# Altium integrated library Actel ProASIC PLUS.IntLib: 230 symbols (part 11 of 33)
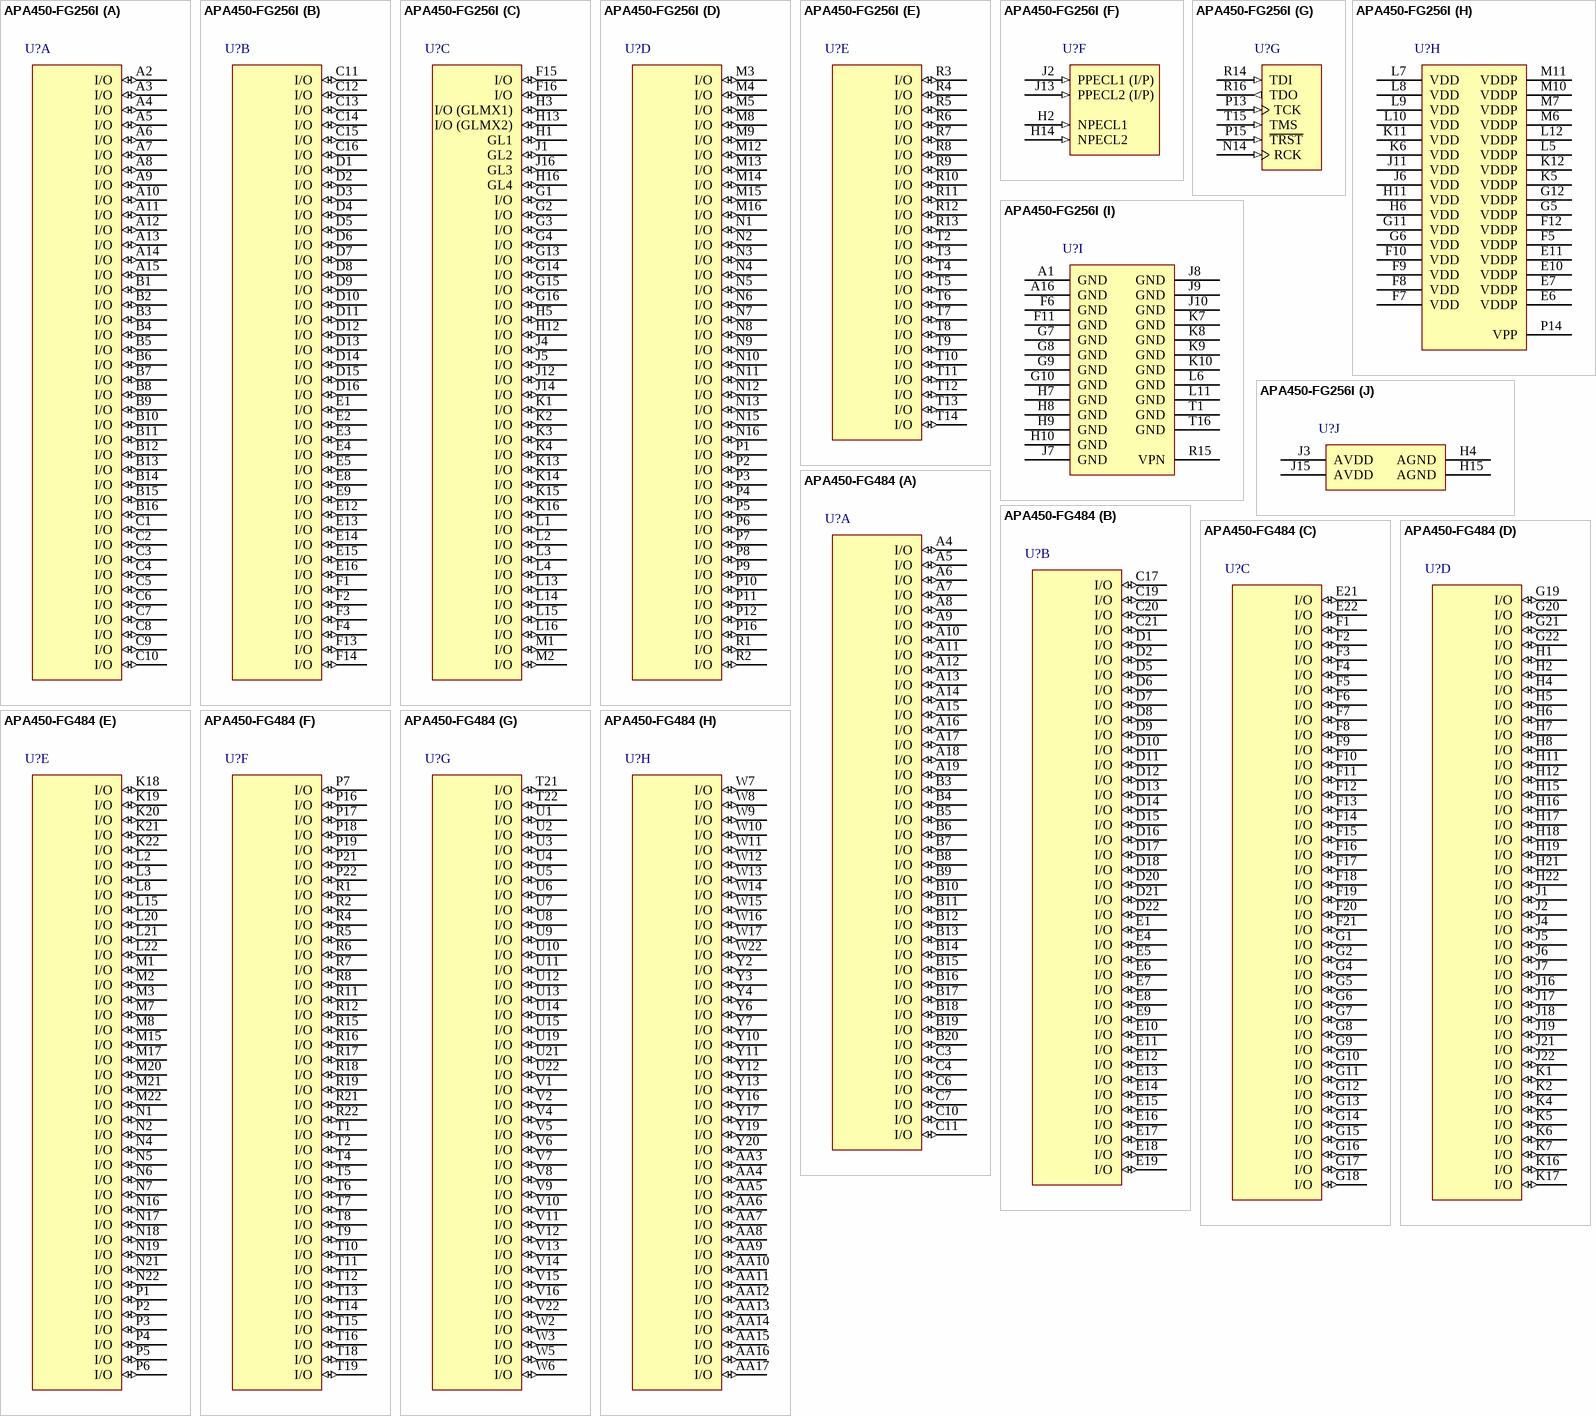
[diagram p173: symbols APA450-FG256I to APA450-FG484]

## APA450-FG256I
designator U?
ProASICPlus APA450 Flash FPGA, 186 User IOs, 256-Pin FBGA, Speed Grade Standard, Industrial Grade; Published: 21-May-2003; LatestRevisionDate: 13-Apr-2006; LatestRevisionNote: IPC-7351 Footprint Added.; DatasheetVersion: ver5.3, May-2006; PackageVersion: v9.4, Aug-2006; PackageReference: FG256; Publisher: Altium Limited; PackageDescription: 256-Ball Fine Pitch Plastic Ball Grid Array (FG256); Code_JEDEC: MS-034-AAF-1; ComponentLink1Description: Manufacturer Link; ComponentLink1URL: http://www.actel.com/products/proasicplus/index.html; ComponentLink2Description: Datasheet; ComponentLink2URL: http://www.actel.com/documents/ProASICPlus_DS.pdf
footprint FG256 (BGA, 256-Leads, Body 17x17mm, Pitch 1mm)
3D model APA450-FG256 (256-Ball Fine Pitch Plastic Ball Grid Array (FG256))
part A pins: A2 I/O (io), A3 I/O (io), A4 I/O (io), A5 I/O (io), A6 I/O (io), A7 I/O (io), A8 I/O (io), A9 I/O (io), A10 I/O (io), A11 I/O (io), A12 I/O (io), A13 I/O (io), A14 I/O (io), A15 I/O (io), B1 I/O (io), B2 I/O (io), B3 I/O (io), B4 I/O (io), B5 I/O (io), B6 I/O (io), B7 I/O (io), B8 I/O (io), B9 I/O (io), B10 I/O (io), B11 I/O (io), B12 I/O (io), B13 I/O (io), B14 I/O (io), B15 I/O (io), B16 I/O (io), C1 I/O (io), C2 I/O (io), C3 I/O (io), C4 I/O (io), C5 I/O (io), C6 I/O (io), C7 I/O (io), C8 I/O (io), C9 I/O (io), C10 I/O (io)
part B pins: C11 I/O (io), C12 I/O (io), C13 I/O (io), C14 I/O (io), C15 I/O (io), C16 I/O (io), D1 I/O (io), D2 I/O (io), D3 I/O (io), D4 I/O (io), D5 I/O (io), D6 I/O (io), D7 I/O (io), D8 I/O (io), D9 I/O (io), D10 I/O (io), D11 I/O (io), D12 I/O (io), D13 I/O (io), D14 I/O (io), D15 I/O (io), D16 I/O (io), E1 I/O (io), E2 I/O (io), E3 I/O (io), E4 I/O (io), E5 I/O (io), E8 I/O (io), E9 I/O (io), E12 I/O (io), E13 I/O (io), E14 I/O (io), E15 I/O (io), E16 I/O (io), F1 I/O (io), F2 I/O (io), F3 I/O (io), F4 I/O (io), F13 I/O (io), F14 I/O (io)
part C pins: F15 I/O (io), F16 I/O (io), G1 I/O (io), G2 I/O (io), G3 I/O (io), G4 I/O (io), G13 I/O (io), G14 I/O (io), G15 I/O (io), G16 I/O (io), H1 GL1 (io), H3 I/O (GLMX1) (io), H5 I/O (io), H12 I/O (io), H13 I/O (GLMX2) (io), H16 GL4 (io), J1 GL2 (io), J4 I/O (io), J5 I/O (io), J12 I/O (io), J14 I/O (io), J16 GL3 (io), K1 I/O (io), K2 I/O (io), K3 I/O (io), K4 I/O (io), K13 I/O (io), K14 I/O (io), K15 I/O (io), K16 I/O (io), L1 I/O (io), L2 I/O (io), L3 I/O (io), L4 I/O (io), L13 I/O (io), L14 I/O (io), L15 I/O (io), L16 I/O (io), M1 I/O (io), M2 I/O (io)
part D pins: M3 I/O (io), M4 I/O (io), M5 I/O (io), M8 I/O (io), M9 I/O (io), M12 I/O (io), M13 I/O (io), M14 I/O (io), M15 I/O (io), M16 I/O (io), N1 I/O (io), N2 I/O (io), N3 I/O (io), N4 I/O (io), N5 I/O (io), N6 I/O (io), N7 I/O (io), N8 I/O (io), N9 I/O (io), N10 I/O (io), N11 I/O (io), N12 I/O (io), N13 I/O (io), N15 I/O (io), N16 I/O (io), P1 I/O (io), P2 I/O (io), P3 I/O (io), P4 I/O (io), P5 I/O (io), P6 I/O (io), P7 I/O (io), P8 I/O (io), P9 I/O (io), P10 I/O (io), P11 I/O (io), P12 I/O (io), P16 I/O (io), R1 I/O (io), R2 I/O (io)
part E pins: R3 I/O (io), R4 I/O (io), R5 I/O (io), R6 I/O (io), R7 I/O (io), R8 I/O (io), R9 I/O (io), R10 I/O (io), R11 I/O (io), R12 I/O (io), R13 I/O (io), T2 I/O (io), T3 I/O (io), T4 I/O (io), T5 I/O (io), T6 I/O (io), T7 I/O (io), T8 I/O (io), T9 I/O (io), T10 I/O (io), T11 I/O (io), T12 I/O (io), T13 I/O (io), T14 I/O (io)
part F pins: H2 NPECL1 (in), H14 NPECL2 (in), J2 PPECL1 (I/P) (in), J13 PPECL2 (I/P) (in)
part G pins: N14 RCK (in), P13 TCK (in), P15 ~{TRST} (in), R14 TDI (in), R16 TDO (out), T15 TMS (in)
part H pins: E6 VDDP (power), E7 VDDP (power), E10 VDDP (power), E11 VDDP (power), F5 VDDP (power), F7 VDD (power), F8 VDD (power), F9 VDD (power), F10 VDD (power), F12 VDDP (power), G5 VDDP (power), G6 VDD (power), G11 VDD (power), G12 VDDP (power), H6 VDD (power), H11 VDD (power), J6 VDD (power), J11 VDD (power), K5 VDDP (power), K6 VDD (power), K11 VDD (power), K12 VDDP (power), L5 VDDP (power), L7 VDD (power), L8 VDD (power), L9 VDD (power), L10 VDD (power), L12 VDDP (power), M6 VDDP (power), M7 VDDP (power), M10 VDDP (power), M11 VDDP (power), P14 VPP (power)
part I pins: A1 GND (power), A16 GND (power), F6 GND (power), F11 GND (power), G7 GND (power), G8 GND (power), G9 GND (power), G10 GND (power), H7 GND (power), H8 GND (power), H9 GND (power), H10 GND (power), J7 GND (power), J8 GND (power), J9 GND (power), J10 GND (power), K7 GND (power), K8 GND (power), K9 GND (power), K10 GND (power), L6 GND (power), L11 GND (power), R15 VPN (power), T1 GND (power), T16 GND (power)
part J pins: H4 AGND (power), H15 AGND (power), J3 AVDD (power), J15 AVDD (power)

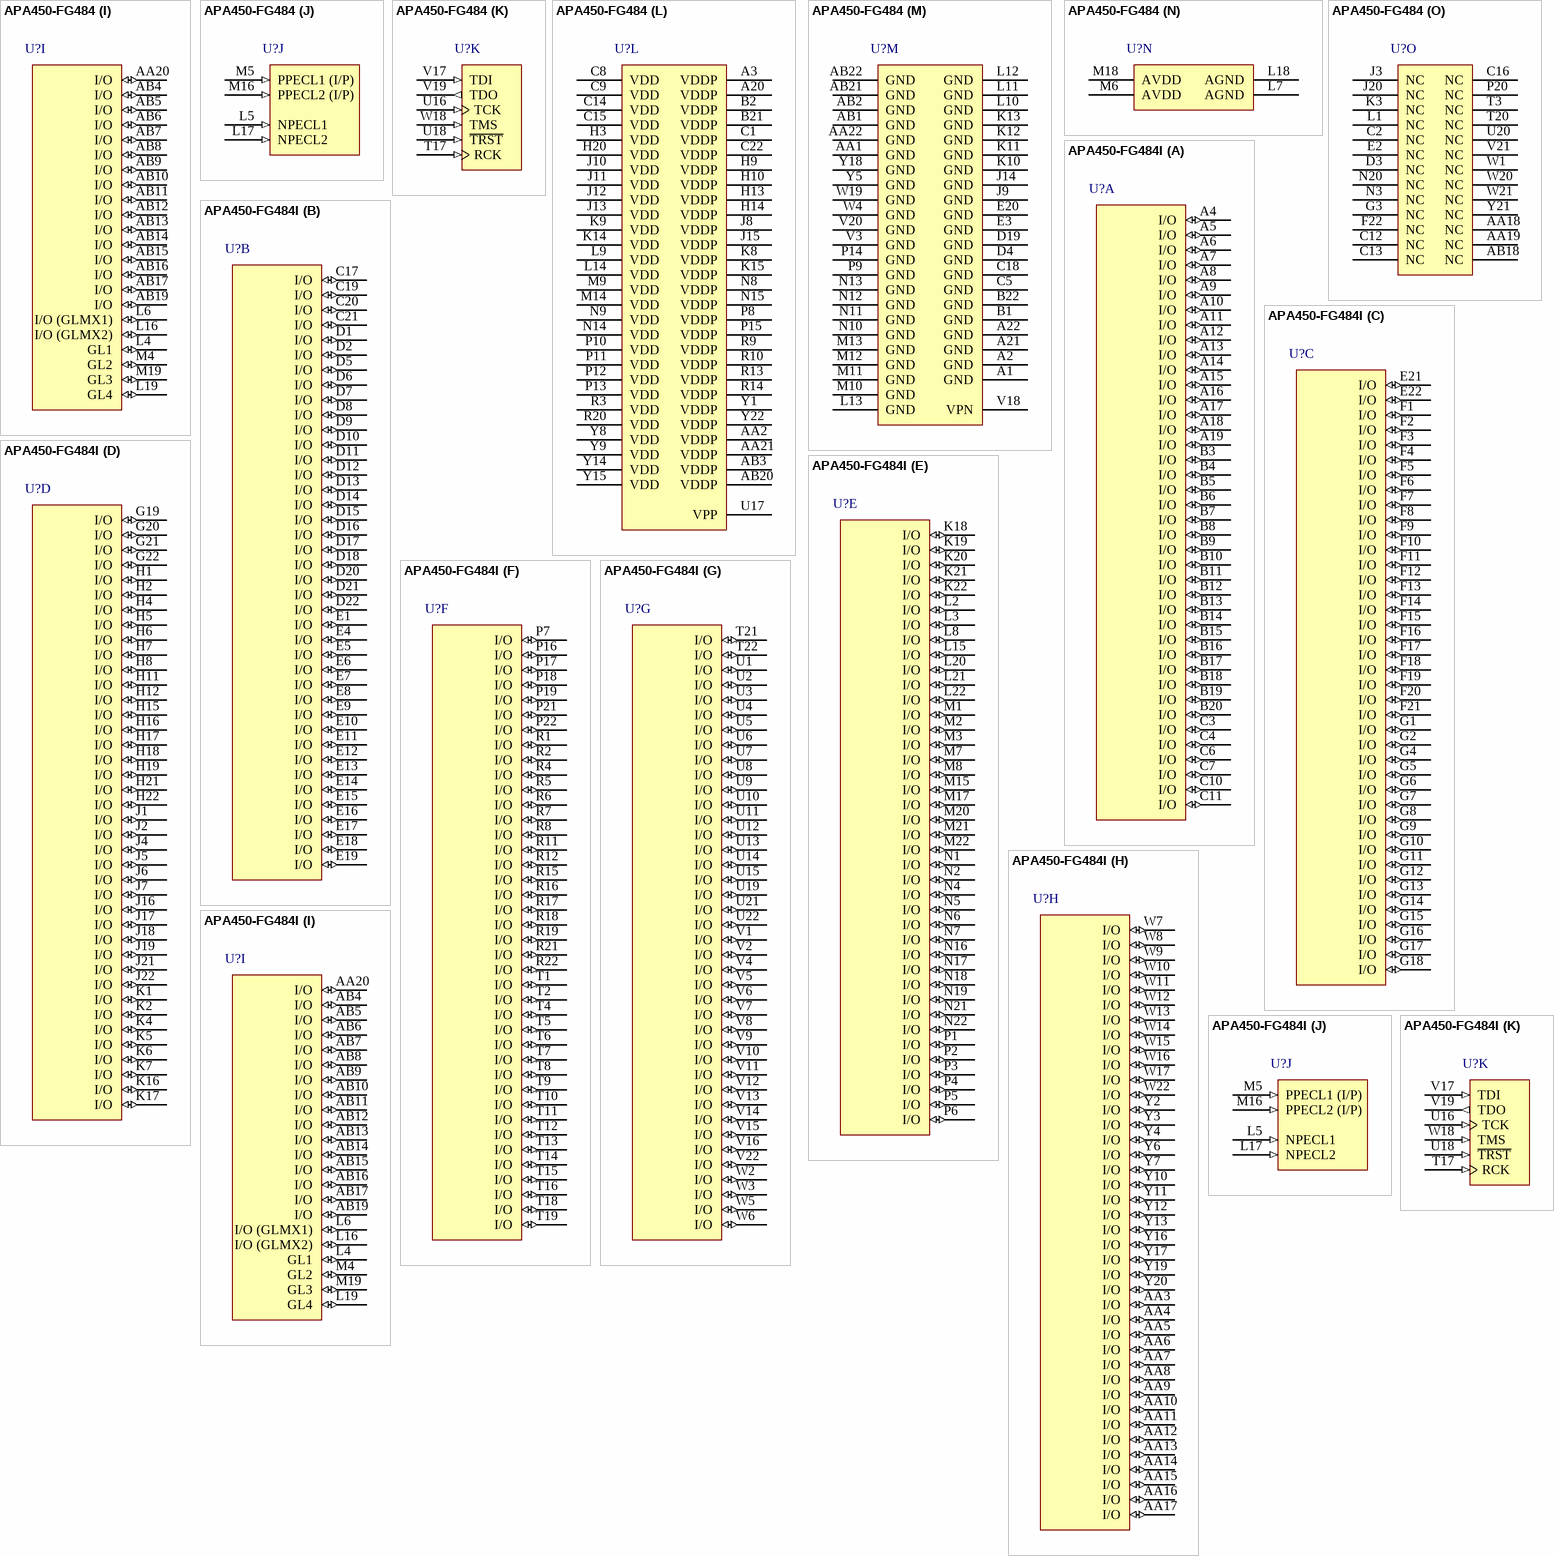
[diagram p56: symbols APA450-FG484 to APA450-FG484I]

## APA450-FG484
designator U?
ProASICPlus APA450 Flash FPGA, 344 User IOs, 484-Pin FBGA, Speed Grade Standard, Commercial Grade; Published: 21-May-2003; LatestRevisionDate: 13-Apr-2006; LatestRevisionNote: IPC-7351 Footprint Added.; DatasheetVersion: ver5.3, May-2006; PackageVersion: v9.4, Aug-2006; PackageReference: FG484; Publisher: Altium Limited; PackageDescription: 484-Ball Fine Pitch Plastic Ball Grid Array (FG484) - Fully Populated; Code_JEDEC: MS-034-AAJ-1; Code_IPC: BGA100P22X22-484; ComponentLink1Description: Manufacturer Link; ComponentLink1URL: http://www.actel.com/products/proasicplus/index.html; ComponentLink2Description: Datasheet; ComponentLink2URL: http://www.actel.com/documents/ProASICPlus_DS.pdf
footprint FG484 (BGA, 484-Leads, Body 23x23mm, Pitch 1mm)
3D model APA450-FG484 (484-Ball Fine Pitch Plastic Ball Grid Array (FG484) - Fully Populated)
part A pins: A4 I/O (io), A5 I/O (io), A6 I/O (io), A7 I/O (io), A8 I/O (io), A9 I/O (io), A10 I/O (io), A11 I/O (io), A12 I/O (io), A13 I/O (io), A14 I/O (io), A15 I/O (io), A16 I/O (io), A17 I/O (io), A18 I/O (io), A19 I/O (io), B3 I/O (io), B4 I/O (io), B5 I/O (io), B6 I/O (io), B7 I/O (io), B8 I/O (io), B9 I/O (io), B10 I/O (io), B11 I/O (io), B12 I/O (io), B13 I/O (io), B14 I/O (io), B15 I/O (io), B16 I/O (io), B17 I/O (io), B18 I/O (io), B19 I/O (io), B20 I/O (io), C3 I/O (io), C4 I/O (io), C6 I/O (io), C7 I/O (io), C10 I/O (io), C11 I/O (io)
part B pins: C17 I/O (io), C19 I/O (io), C20 I/O (io), C21 I/O (io), D1 I/O (io), D2 I/O (io), D5 I/O (io), D6 I/O (io), D7 I/O (io), D8 I/O (io), D9 I/O (io), D10 I/O (io), D11 I/O (io), D12 I/O (io), D13 I/O (io), D14 I/O (io), D15 I/O (io), D16 I/O (io), D17 I/O (io), D18 I/O (io), D20 I/O (io), D21 I/O (io), D22 I/O (io), E1 I/O (io), E4 I/O (io), E5 I/O (io), E6 I/O (io), E7 I/O (io), E8 I/O (io), E9 I/O (io), E10 I/O (io), E11 I/O (io), E12 I/O (io), E13 I/O (io), E14 I/O (io), E15 I/O (io), E16 I/O (io), E17 I/O (io), E18 I/O (io), E19 I/O (io)
part C pins: E21 I/O (io), E22 I/O (io), F1 I/O (io), F2 I/O (io), F3 I/O (io), F4 I/O (io), F5 I/O (io), F6 I/O (io), F7 I/O (io), F8 I/O (io), F9 I/O (io), F10 I/O (io), F11 I/O (io), F12 I/O (io), F13 I/O (io), F14 I/O (io), F15 I/O (io), F16 I/O (io), F17 I/O (io), F18 I/O (io), F19 I/O (io), F20 I/O (io), F21 I/O (io), G1 I/O (io), G2 I/O (io), G4 I/O (io), G5 I/O (io), G6 I/O (io), G7 I/O (io), G8 I/O (io), G9 I/O (io), G10 I/O (io), G11 I/O (io), G12 I/O (io), G13 I/O (io), G14 I/O (io), G15 I/O (io), G16 I/O (io), G17 I/O (io), G18 I/O (io)
part D pins: G19 I/O (io), G20 I/O (io), G21 I/O (io), G22 I/O (io), H1 I/O (io), H2 I/O (io), H4 I/O (io), H5 I/O (io), H6 I/O (io), H7 I/O (io), H8 I/O (io), H11 I/O (io), H12 I/O (io), H15 I/O (io), H16 I/O (io), H17 I/O (io), H18 I/O (io), H19 I/O (io), H21 I/O (io), H22 I/O (io), J1 I/O (io), J2 I/O (io), J4 I/O (io), J5 I/O (io), J6 I/O (io), J7 I/O (io), J16 I/O (io), J17 I/O (io), J18 I/O (io), J19 I/O (io), J21 I/O (io), J22 I/O (io), K1 I/O (io), K2 I/O (io), K4 I/O (io), K5 I/O (io), K6 I/O (io), K7 I/O (io), K16 I/O (io), K17 I/O (io)
part E pins: K18 I/O (io), K19 I/O (io), K20 I/O (io), K21 I/O (io), K22 I/O (io), L2 I/O (io), L3 I/O (io), L8 I/O (io), L15 I/O (io), L20 I/O (io), L21 I/O (io), L22 I/O (io), M1 I/O (io), M2 I/O (io), M3 I/O (io), M7 I/O (io), M8 I/O (io), M15 I/O (io), M17 I/O (io), M20 I/O (io), M21 I/O (io), M22 I/O (io), N1 I/O (io), N2 I/O (io), N4 I/O (io), N5 I/O (io), N6 I/O (io), N7 I/O (io), N16 I/O (io), N17 I/O (io), N18 I/O (io), N19 I/O (io), N21 I/O (io), N22 I/O (io), P1 I/O (io), P2 I/O (io), P3 I/O (io), P4 I/O (io), P5 I/O (io), P6 I/O (io)
part F pins: P7 I/O (io), P16 I/O (io), P17 I/O (io), P18 I/O (io), P19 I/O (io), P21 I/O (io), P22 I/O (io), R1 I/O (io), R2 I/O (io), R4 I/O (io), R5 I/O (io), R6 I/O (io), R7 I/O (io), R8 I/O (io), R11 I/O (io), R12 I/O (io), R15 I/O (io), R16 I/O (io), R17 I/O (io), R18 I/O (io), R19 I/O (io), R21 I/O (io), R22 I/O (io), T1 I/O (io), T2 I/O (io), T4 I/O (io), T5 I/O (io), T6 I/O (io), T7 I/O (io), T8 I/O (io), T9 I/O (io), T10 I/O (io), T11 I/O (io), T12 I/O (io), T13 I/O (io), T14 I/O (io), T15 I/O (io), T16 I/O (io), T18 I/O (io), T19 I/O (io)
part G pins: T21 I/O (io), T22 I/O (io), U1 I/O (io), U2 I/O (io), U3 I/O (io), U4 I/O (io), U5 I/O (io), U6 I/O (io), U7 I/O (io), U8 I/O (io), U9 I/O (io), U10 I/O (io), U11 I/O (io), U12 I/O (io), U13 I/O (io), U14 I/O (io), U15 I/O (io), U19 I/O (io), U21 I/O (io), U22 I/O (io), V1 I/O (io), V2 I/O (io), V4 I/O (io), V5 I/O (io), V6 I/O (io), V7 I/O (io), V8 I/O (io), V9 I/O (io), V10 I/O (io), V11 I/O (io), V12 I/O (io), V13 I/O (io), V14 I/O (io), V15 I/O (io), V16 I/O (io), V22 I/O (io), W2 I/O (io), W3 I/O (io), W5 I/O (io), W6 I/O (io)
part H pins: AA3 I/O (io), AA4 I/O (io), AA5 I/O (io), AA6 I/O (io), AA7 I/O (io), AA8 I/O (io), AA9 I/O (io), AA10 I/O (io), AA11 I/O (io), AA12 I/O (io), AA13 I/O (io), AA14 I/O (io), AA15 I/O (io), AA16 I/O (io), AA17 I/O (io), W7 I/O (io), W8 I/O (io), W9 I/O (io), W10 I/O (io), W11 I/O (io), W12 I/O (io), W13 I/O (io), W14 I/O (io), W15 I/O (io), W16 I/O (io), W17 I/O (io), W22 I/O (io), Y2 I/O (io), Y3 I/O (io), Y4 I/O (io), Y6 I/O (io), Y7 I/O (io), Y10 I/O (io), Y11 I/O (io), Y12 I/O (io), Y13 I/O (io), Y16 I/O (io), Y17 I/O (io), Y19 I/O (io), Y20 I/O (io)
part I pins: AA20 I/O (io), AB4 I/O (io), AB5 I/O (io), AB6 I/O (io), AB7 I/O (io), AB8 I/O (io), AB9 I/O (io), AB10 I/O (io), AB11 I/O (io), AB12 I/O (io), AB13 I/O (io), AB14 I/O (io), AB15 I/O (io), AB16 I/O (io), AB17 I/O (io), AB19 I/O (io), L4 GL1 (io), L6 I/O (GLMX1) (io), L16 I/O (GLMX2) (io), L19 GL4 (io), M4 GL2 (io), M19 GL3 (io)
part J pins: L5 NPECL1 (in), L17 NPECL2 (in), M5 PPECL1 (I/P) (in), M16 PPECL2 (I/P) (in)
part K pins: T17 RCK (in), U16 TCK (in), U18 ~{TRST} (in), V17 TDI (in), V19 TDO (out), W18 TMS (in)
part L pins: A3 VDDP (power), A20 VDDP (power), AA2 VDDP (power), AA21 VDDP (power), AB3 VDDP (power), AB20 VDDP (power), B2 VDDP (power), B21 VDDP (power), C1 VDDP (power), C8 VDD (power), C9 VDD (power), C14 VDD (power), C15 VDD (power), C22 VDDP (power), H3 VDD (power), H9 VDDP (power), H10 VDDP (power), H13 VDDP (power), H14 VDDP (power), H20 VDD (power), J8 VDDP (power), J10 VDD (power), J11 VDD (power), J12 VDD (power), J13 VDD (power), J15 VDDP (power), K8 VDDP (power), K9 VDD (power), K14 VDD (power), K15 VDDP (power), L9 VDD (power), L14 VDD (power), M9 VDD (power), M14 VDD (power), N8 VDDP (power), N9 VDD (power), N14 VDD (power), N15 VDDP (power), P8 VDDP (power), P10 VDD (power), P11 VDD (power), P12 VDD (power), P13 VDD (power), P15 VDDP (power), R3 VDD (power), R9 VDDP (power), R10 VDDP (power), R13 VDDP (power), R14 VDDP (power), R20 VDD (power), U17 VPP (power), Y1 VDDP (power), Y8 VDD (power), Y9 VDD (power), Y14 VDD (power), Y15 VDD (power), Y22 VDDP (power)
part M pins: A1 GND (power), A2 GND (power), A21 GND (power), A22 GND (power), AA1 GND (power), AA22 GND (power), AB1 GND (power), AB2 GND (power), AB21 GND (power), AB22 GND (power), B1 GND (power), B22 GND (power), C5 GND (power), C18 GND (power), D4 GND (power), D19 GND (power), E3 GND (power), E20 GND (power), J9 GND (power), J14 GND (power), K10 GND (power), K11 GND (power), K12 GND (power), K13 GND (power), L10 GND (power), L11 GND (power), L12 GND (power), L13 GND (power), M10 GND (power), M11 GND (power), M12 GND (power), M13 GND (power), N10 GND (power), N11 GND (power), N12 GND (power), N13 GND (power), P9 GND (power), P14 GND (power), V3 GND (power), V18 VPN (power), V20 GND (power), W4 GND (power), W19 GND (power), Y5 GND (power), Y18 GND (power)
part N pins: L7 AGND (power), L18 AGND (power), M6 AVDD (power), M18 AVDD (power)
part O pins: AA18 NC, AA19 NC, AB18 NC, C2 NC, C12 NC, C13 NC, C16 NC, D3 NC, E2 NC, F22 NC, G3 NC, J3 NC, J20 NC, K3 NC, L1 NC, N3 NC, N20 NC, P20 NC, T3 NC, T20 NC, U20 NC, V21 NC, W1 NC, W20 NC, W21 NC, Y21 NC

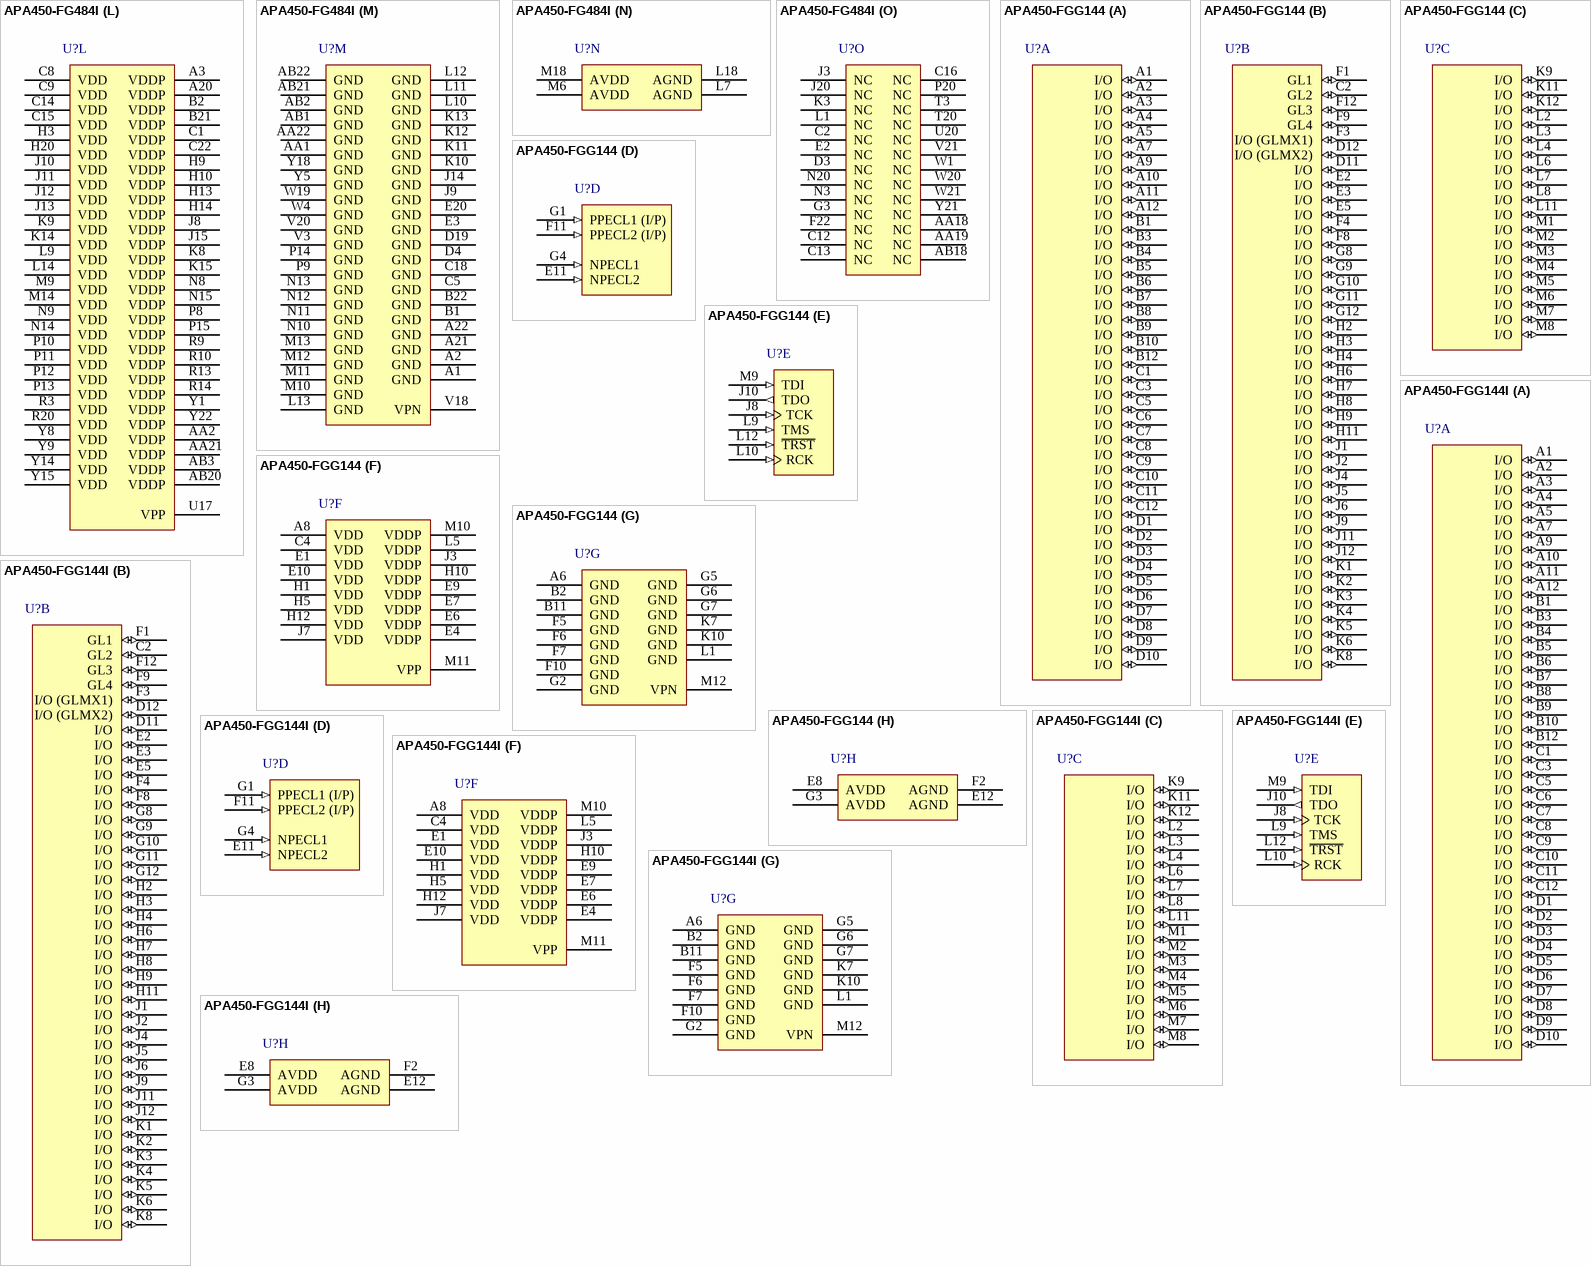
[diagram p57: symbols APA450-FG484I to APA450-FGG144I]

## APA450-FG484I
designator U?
ProASICPlus APA450 Flash FPGA, 344 User IOs, 484-Pin FBGA, Speed Grade Standard, Industrial Grade; Published: 21-May-2003; LatestRevisionDate: 13-Apr-2006; LatestRevisionNote: IPC-7351 Footprint Added.; DatasheetVersion: ver5.3, May-2006; PackageVersion: v9.4, Aug-2006; PackageReference: FG484; Publisher: Altium Limited; PackageDescription: 484-Ball Fine Pitch Plastic Ball Grid Array (FG484) - Fully Populated; Code_JEDEC: MS-034-AAJ-1; Code_IPC: BGA100P22X22-484; ComponentLink1Description: Manufacturer Link; ComponentLink1URL: http://www.actel.com/products/proasicplus/index.html; ComponentLink2Description: Datasheet; ComponentLink2URL: http://www.actel.com/documents/ProASICPlus_DS.pdf
footprint FG484 (BGA, 484-Leads, Body 23x23mm, Pitch 1mm)
3D model APA450-FG484 (484-Ball Fine Pitch Plastic Ball Grid Array (FG484) - Fully Populated)
part A pins: A4 I/O (io), A5 I/O (io), A6 I/O (io), A7 I/O (io), A8 I/O (io), A9 I/O (io), A10 I/O (io), A11 I/O (io), A12 I/O (io), A13 I/O (io), A14 I/O (io), A15 I/O (io), A16 I/O (io), A17 I/O (io), A18 I/O (io), A19 I/O (io), B3 I/O (io), B4 I/O (io), B5 I/O (io), B6 I/O (io), B7 I/O (io), B8 I/O (io), B9 I/O (io), B10 I/O (io), B11 I/O (io), B12 I/O (io), B13 I/O (io), B14 I/O (io), B15 I/O (io), B16 I/O (io), B17 I/O (io), B18 I/O (io), B19 I/O (io), B20 I/O (io), C3 I/O (io), C4 I/O (io), C6 I/O (io), C7 I/O (io), C10 I/O (io), C11 I/O (io)
part B pins: C17 I/O (io), C19 I/O (io), C20 I/O (io), C21 I/O (io), D1 I/O (io), D2 I/O (io), D5 I/O (io), D6 I/O (io), D7 I/O (io), D8 I/O (io), D9 I/O (io), D10 I/O (io), D11 I/O (io), D12 I/O (io), D13 I/O (io), D14 I/O (io), D15 I/O (io), D16 I/O (io), D17 I/O (io), D18 I/O (io), D20 I/O (io), D21 I/O (io), D22 I/O (io), E1 I/O (io), E4 I/O (io), E5 I/O (io), E6 I/O (io), E7 I/O (io), E8 I/O (io), E9 I/O (io), E10 I/O (io), E11 I/O (io), E12 I/O (io), E13 I/O (io), E14 I/O (io), E15 I/O (io), E16 I/O (io), E17 I/O (io), E18 I/O (io), E19 I/O (io)
part C pins: E21 I/O (io), E22 I/O (io), F1 I/O (io), F2 I/O (io), F3 I/O (io), F4 I/O (io), F5 I/O (io), F6 I/O (io), F7 I/O (io), F8 I/O (io), F9 I/O (io), F10 I/O (io), F11 I/O (io), F12 I/O (io), F13 I/O (io), F14 I/O (io), F15 I/O (io), F16 I/O (io), F17 I/O (io), F18 I/O (io), F19 I/O (io), F20 I/O (io), F21 I/O (io), G1 I/O (io), G2 I/O (io), G4 I/O (io), G5 I/O (io), G6 I/O (io), G7 I/O (io), G8 I/O (io), G9 I/O (io), G10 I/O (io), G11 I/O (io), G12 I/O (io), G13 I/O (io), G14 I/O (io), G15 I/O (io), G16 I/O (io), G17 I/O (io), G18 I/O (io)
part D pins: G19 I/O (io), G20 I/O (io), G21 I/O (io), G22 I/O (io), H1 I/O (io), H2 I/O (io), H4 I/O (io), H5 I/O (io), H6 I/O (io), H7 I/O (io), H8 I/O (io), H11 I/O (io), H12 I/O (io), H15 I/O (io), H16 I/O (io), H17 I/O (io), H18 I/O (io), H19 I/O (io), H21 I/O (io), H22 I/O (io), J1 I/O (io), J2 I/O (io), J4 I/O (io), J5 I/O (io), J6 I/O (io), J7 I/O (io), J16 I/O (io), J17 I/O (io), J18 I/O (io), J19 I/O (io), J21 I/O (io), J22 I/O (io), K1 I/O (io), K2 I/O (io), K4 I/O (io), K5 I/O (io), K6 I/O (io), K7 I/O (io), K16 I/O (io), K17 I/O (io)
part E pins: K18 I/O (io), K19 I/O (io), K20 I/O (io), K21 I/O (io), K22 I/O (io), L2 I/O (io), L3 I/O (io), L8 I/O (io), L15 I/O (io), L20 I/O (io), L21 I/O (io), L22 I/O (io), M1 I/O (io), M2 I/O (io), M3 I/O (io), M7 I/O (io), M8 I/O (io), M15 I/O (io), M17 I/O (io), M20 I/O (io), M21 I/O (io), M22 I/O (io), N1 I/O (io), N2 I/O (io), N4 I/O (io), N5 I/O (io), N6 I/O (io), N7 I/O (io), N16 I/O (io), N17 I/O (io), N18 I/O (io), N19 I/O (io), N21 I/O (io), N22 I/O (io), P1 I/O (io), P2 I/O (io), P3 I/O (io), P4 I/O (io), P5 I/O (io), P6 I/O (io)
part F pins: P7 I/O (io), P16 I/O (io), P17 I/O (io), P18 I/O (io), P19 I/O (io), P21 I/O (io), P22 I/O (io), R1 I/O (io), R2 I/O (io), R4 I/O (io), R5 I/O (io), R6 I/O (io), R7 I/O (io), R8 I/O (io), R11 I/O (io), R12 I/O (io), R15 I/O (io), R16 I/O (io), R17 I/O (io), R18 I/O (io), R19 I/O (io), R21 I/O (io), R22 I/O (io), T1 I/O (io), T2 I/O (io), T4 I/O (io), T5 I/O (io), T6 I/O (io), T7 I/O (io), T8 I/O (io), T9 I/O (io), T10 I/O (io), T11 I/O (io), T12 I/O (io), T13 I/O (io), T14 I/O (io), T15 I/O (io), T16 I/O (io), T18 I/O (io), T19 I/O (io)
part G pins: T21 I/O (io), T22 I/O (io), U1 I/O (io), U2 I/O (io), U3 I/O (io), U4 I/O (io), U5 I/O (io), U6 I/O (io), U7 I/O (io), U8 I/O (io), U9 I/O (io), U10 I/O (io), U11 I/O (io), U12 I/O (io), U13 I/O (io), U14 I/O (io), U15 I/O (io), U19 I/O (io), U21 I/O (io), U22 I/O (io), V1 I/O (io), V2 I/O (io), V4 I/O (io), V5 I/O (io), V6 I/O (io), V7 I/O (io), V8 I/O (io), V9 I/O (io), V10 I/O (io), V11 I/O (io), V12 I/O (io), V13 I/O (io), V14 I/O (io), V15 I/O (io), V16 I/O (io), V22 I/O (io), W2 I/O (io), W3 I/O (io), W5 I/O (io), W6 I/O (io)
part H pins: AA3 I/O (io), AA4 I/O (io), AA5 I/O (io), AA6 I/O (io), AA7 I/O (io), AA8 I/O (io), AA9 I/O (io), AA10 I/O (io), AA11 I/O (io), AA12 I/O (io), AA13 I/O (io), AA14 I/O (io), AA15 I/O (io), AA16 I/O (io), AA17 I/O (io), W7 I/O (io), W8 I/O (io), W9 I/O (io), W10 I/O (io), W11 I/O (io), W12 I/O (io), W13 I/O (io), W14 I/O (io), W15 I/O (io), W16 I/O (io), W17 I/O (io), W22 I/O (io), Y2 I/O (io), Y3 I/O (io), Y4 I/O (io), Y6 I/O (io), Y7 I/O (io), Y10 I/O (io), Y11 I/O (io), Y12 I/O (io), Y13 I/O (io), Y16 I/O (io), Y17 I/O (io), Y19 I/O (io), Y20 I/O (io)
part I pins: AA20 I/O (io), AB4 I/O (io), AB5 I/O (io), AB6 I/O (io), AB7 I/O (io), AB8 I/O (io), AB9 I/O (io), AB10 I/O (io), AB11 I/O (io), AB12 I/O (io), AB13 I/O (io), AB14 I/O (io), AB15 I/O (io), AB16 I/O (io), AB17 I/O (io), AB19 I/O (io), L4 GL1 (io), L6 I/O (GLMX1) (io), L16 I/O (GLMX2) (io), L19 GL4 (io), M4 GL2 (io), M19 GL3 (io)
part J pins: L5 NPECL1 (in), L17 NPECL2 (in), M5 PPECL1 (I/P) (in), M16 PPECL2 (I/P) (in)
part K pins: T17 RCK (in), U16 TCK (in), U18 ~{TRST} (in), V17 TDI (in), V19 TDO (out), W18 TMS (in)
part L pins: A3 VDDP (power), A20 VDDP (power), AA2 VDDP (power), AA21 VDDP (power), AB3 VDDP (power), AB20 VDDP (power), B2 VDDP (power), B21 VDDP (power), C1 VDDP (power), C8 VDD (power), C9 VDD (power), C14 VDD (power), C15 VDD (power), C22 VDDP (power), H3 VDD (power), H9 VDDP (power), H10 VDDP (power), H13 VDDP (power), H14 VDDP (power), H20 VDD (power), J8 VDDP (power), J10 VDD (power), J11 VDD (power), J12 VDD (power), J13 VDD (power), J15 VDDP (power), K8 VDDP (power), K9 VDD (power), K14 VDD (power), K15 VDDP (power), L9 VDD (power), L14 VDD (power), M9 VDD (power), M14 VDD (power), N8 VDDP (power), N9 VDD (power), N14 VDD (power), N15 VDDP (power), P8 VDDP (power), P10 VDD (power), P11 VDD (power), P12 VDD (power), P13 VDD (power), P15 VDDP (power), R3 VDD (power), R9 VDDP (power), R10 VDDP (power), R13 VDDP (power), R14 VDDP (power), R20 VDD (power), U17 VPP (power), Y1 VDDP (power), Y8 VDD (power), Y9 VDD (power), Y14 VDD (power), Y15 VDD (power), Y22 VDDP (power)
part M pins: A1 GND (power), A2 GND (power), A21 GND (power), A22 GND (power), AA1 GND (power), AA22 GND (power), AB1 GND (power), AB2 GND (power), AB21 GND (power), AB22 GND (power), B1 GND (power), B22 GND (power), C5 GND (power), C18 GND (power), D4 GND (power), D19 GND (power), E3 GND (power), E20 GND (power), J9 GND (power), J14 GND (power), K10 GND (power), K11 GND (power), K12 GND (power), K13 GND (power), L10 GND (power), L11 GND (power), L12 GND (power), L13 GND (power), M10 GND (power), M11 GND (power), M12 GND (power), M13 GND (power), N10 GND (power), N11 GND (power), N12 GND (power), N13 GND (power), P9 GND (power), P14 GND (power), V3 GND (power), V18 VPN (power), V20 GND (power), W4 GND (power), W19 GND (power), Y5 GND (power), Y18 GND (power)
part N pins: L7 AGND (power), L18 AGND (power), M6 AVDD (power), M18 AVDD (power)
part O pins: AA18 NC, AA19 NC, AB18 NC, C2 NC, C12 NC, C13 NC, C16 NC, D3 NC, E2 NC, F22 NC, G3 NC, J3 NC, J20 NC, K3 NC, L1 NC, N3 NC, N20 NC, P20 NC, T3 NC, T20 NC, U20 NC, V21 NC, W1 NC, W20 NC, W21 NC, Y21 NC

## APA450-FGG144
designator U?
ProASICPlus APA450 Flash FPGA, 100 User IOs, 114-Pin FBGA, Speed Grade Standard, Commercial Grade, Pb-Free; Published: 16-Dec-2005; LatestRevisionDate: 13-Apr-2006; LatestRevisionNote: IPC-7351 Footprint Added.; DatasheetVersion: ver5.3, May-2006; PackageVersion: v9.4, Aug-2006; PackageReference: FG144; Publisher: Altium Limited; PackageDescription: 144-Ball Fine Pitch Plastic Ball Grid Array (FG144); Code_JEDEC: MS-034-AAP-1; ComponentLink1Description: Manufacturer Link; ComponentLink1URL: http://www.actel.com/products/proasicplus/index.html; ComponentLink2Description: Datasheet; ComponentLink2URL: http://www.actel.com/documents/ProASICPlus_DS.pdf
footprint FG144 (BGA, 144-Leads, Body 13x13mm, Pitch 1mm)
3D model APA450-FG144 (144-Ball Fine Pitch Plastic Ball Grid Array (FG144))
part A pins: A1 I/O (io), A2 I/O (io), A3 I/O (io), A4 I/O (io), A5 I/O (io), A7 I/O (io), A9 I/O (io), A10 I/O (io), A11 I/O (io), A12 I/O (io), B1 I/O (io), B3 I/O (io), B4 I/O (io), B5 I/O (io), B6 I/O (io), B7 I/O (io), B8 I/O (io), B9 I/O (io), B10 I/O (io), B12 I/O (io), C1 I/O (io), C3 I/O (io), C5 I/O (io), C6 I/O (io), C7 I/O (io), C8 I/O (io), C9 I/O (io), C10 I/O (io), C11 I/O (io), C12 I/O (io), D1 I/O (io), D2 I/O (io), D3 I/O (io), D4 I/O (io), D5 I/O (io), D6 I/O (io), D7 I/O (io), D8 I/O (io), D9 I/O (io), D10 I/O (io)
part B pins: C2 GL2 (io), D11 I/O (io), D12 I/O (GLMX2) (io), E2 I/O (io), E3 I/O (io), E5 I/O (io), F1 GL1 (io), F3 I/O (GLMX1) (io), F4 I/O (io), F8 I/O (io), F9 GL4 (io), F12 GL3 (io), G8 I/O (io), G9 I/O (io), G10 I/O (io), G11 I/O (io), G12 I/O (io), H2 I/O (io), H3 I/O (io), H4 I/O (io), H6 I/O (io), H7 I/O (io), H8 I/O (io), H9 I/O (io), H11 I/O (io), J1 I/O (io), J2 I/O (io), J4 I/O (io), J5 I/O (io), J6 I/O (io), J9 I/O (io), J11 I/O (io), J12 I/O (io), K1 I/O (io), K2 I/O (io), K3 I/O (io), K4 I/O (io), K5 I/O (io), K6 I/O (io), K8 I/O (io)
part C pins: K9 I/O (io), K11 I/O (io), K12 I/O (io), L2 I/O (io), L3 I/O (io), L4 I/O (io), L6 I/O (io), L7 I/O (io), L8 I/O (io), L11 I/O (io), M1 I/O (io), M2 I/O (io), M3 I/O (io), M4 I/O (io), M5 I/O (io), M6 I/O (io), M7 I/O (io), M8 I/O (io)
part D pins: E11 NPECL2 (in), F11 PPECL2 (I/P) (in), G1 PPECL1 (I/P) (in), G4 NPECL1 (in)
part E pins: J8 TCK (in), J10 TDO (out), L9 TMS (in), L10 RCK (in), L12 ~{TRST} (in), M9 TDI (in)
part F pins: A8 VDD (power), C4 VDD (power), E1 VDD (power), E4 VDDP (power), E6 VDDP (power), E7 VDDP (power), E9 VDDP (power), E10 VDD (power), H1 VDD (power), H5 VDD (power), H10 VDDP (power), H12 VDD (power), J3 VDDP (power), J7 VDD (power), L5 VDDP (power), M10 VDDP (power), M11 VPP (power)
part G pins: A6 GND (power), B2 GND (power), B11 GND (power), F5 GND (power), F6 GND (power), F7 GND (power), F10 GND (power), G2 GND (power), G5 GND (power), G6 GND (power), G7 GND (power), K7 GND (power), K10 GND (power), L1 GND (power), M12 VPN (power)
part H pins: E8 AVDD (power), E12 AGND (power), F2 AGND (power), G3 AVDD (power)

## APA450-FGG144I
designator U?
ProASICPlus APA450 Flash FPGA, 100 User IOs, 114-Pin FBGA, Speed Grade Standard, Industrial Grade, Pb-Free; Published: 16-Dec-2005; LatestRevisionDate: 13-Apr-2006; LatestRevisionNote: IPC-7351 Footprint Added.; DatasheetVersion: ver5.3, May-2006; PackageVersion: v9.4, Aug-2006; PackageReference: FG144; Publisher: Altium Limited; PackageDescription: 144-Ball Fine Pitch Plastic Ball Grid Array (FG144); Code_JEDEC: MS-034-AAP-1; ComponentLink1Description: Manufacturer Link; ComponentLink1URL: http://www.actel.com/products/proasicplus/index.html; ComponentLink2Description: Datasheet; ComponentLink2URL: http://www.actel.com/documents/ProASICPlus_DS.pdf
footprint FG144 (BGA, 144-Leads, Body 13x13mm, Pitch 1mm)
3D model APA450-FG144 (144-Ball Fine Pitch Plastic Ball Grid Array (FG144))
part A pins: A1 I/O (io), A2 I/O (io), A3 I/O (io), A4 I/O (io), A5 I/O (io), A7 I/O (io), A9 I/O (io), A10 I/O (io), A11 I/O (io), A12 I/O (io), B1 I/O (io), B3 I/O (io), B4 I/O (io), B5 I/O (io), B6 I/O (io), B7 I/O (io), B8 I/O (io), B9 I/O (io), B10 I/O (io), B12 I/O (io), C1 I/O (io), C3 I/O (io), C5 I/O (io), C6 I/O (io), C7 I/O (io), C8 I/O (io), C9 I/O (io), C10 I/O (io), C11 I/O (io), C12 I/O (io), D1 I/O (io), D2 I/O (io), D3 I/O (io), D4 I/O (io), D5 I/O (io), D6 I/O (io), D7 I/O (io), D8 I/O (io), D9 I/O (io), D10 I/O (io)
part B pins: C2 GL2 (io), D11 I/O (io), D12 I/O (GLMX2) (io), E2 I/O (io), E3 I/O (io), E5 I/O (io), F1 GL1 (io), F3 I/O (GLMX1) (io), F4 I/O (io), F8 I/O (io), F9 GL4 (io), F12 GL3 (io), G8 I/O (io), G9 I/O (io), G10 I/O (io), G11 I/O (io), G12 I/O (io), H2 I/O (io), H3 I/O (io), H4 I/O (io), H6 I/O (io), H7 I/O (io), H8 I/O (io), H9 I/O (io), H11 I/O (io), J1 I/O (io), J2 I/O (io), J4 I/O (io), J5 I/O (io), J6 I/O (io), J9 I/O (io), J11 I/O (io), J12 I/O (io), K1 I/O (io), K2 I/O (io), K3 I/O (io), K4 I/O (io), K5 I/O (io), K6 I/O (io), K8 I/O (io)
part C pins: K9 I/O (io), K11 I/O (io), K12 I/O (io), L2 I/O (io), L3 I/O (io), L4 I/O (io), L6 I/O (io), L7 I/O (io), L8 I/O (io), L11 I/O (io), M1 I/O (io), M2 I/O (io), M3 I/O (io), M4 I/O (io), M5 I/O (io), M6 I/O (io), M7 I/O (io), M8 I/O (io)
part D pins: E11 NPECL2 (in), F11 PPECL2 (I/P) (in), G1 PPECL1 (I/P) (in), G4 NPECL1 (in)
part E pins: J8 TCK (in), J10 TDO (out), L9 TMS (in), L10 RCK (in), L12 ~{TRST} (in), M9 TDI (in)
part F pins: A8 VDD (power), C4 VDD (power), E1 VDD (power), E4 VDDP (power), E6 VDDP (power), E7 VDDP (power), E9 VDDP (power), E10 VDD (power), H1 VDD (power), H5 VDD (power), H10 VDDP (power), H12 VDD (power), J3 VDDP (power), J7 VDD (power), L5 VDDP (power), M10 VDDP (power), M11 VPP (power)
part G pins: A6 GND (power), B2 GND (power), B11 GND (power), F5 GND (power), F6 GND (power), F7 GND (power), F10 GND (power), G2 GND (power), G5 GND (power), G6 GND (power), G7 GND (power), K7 GND (power), K10 GND (power), L1 GND (power), M12 VPN (power)
part H pins: E8 AVDD (power), E12 AGND (power), F2 AGND (power), G3 AVDD (power)

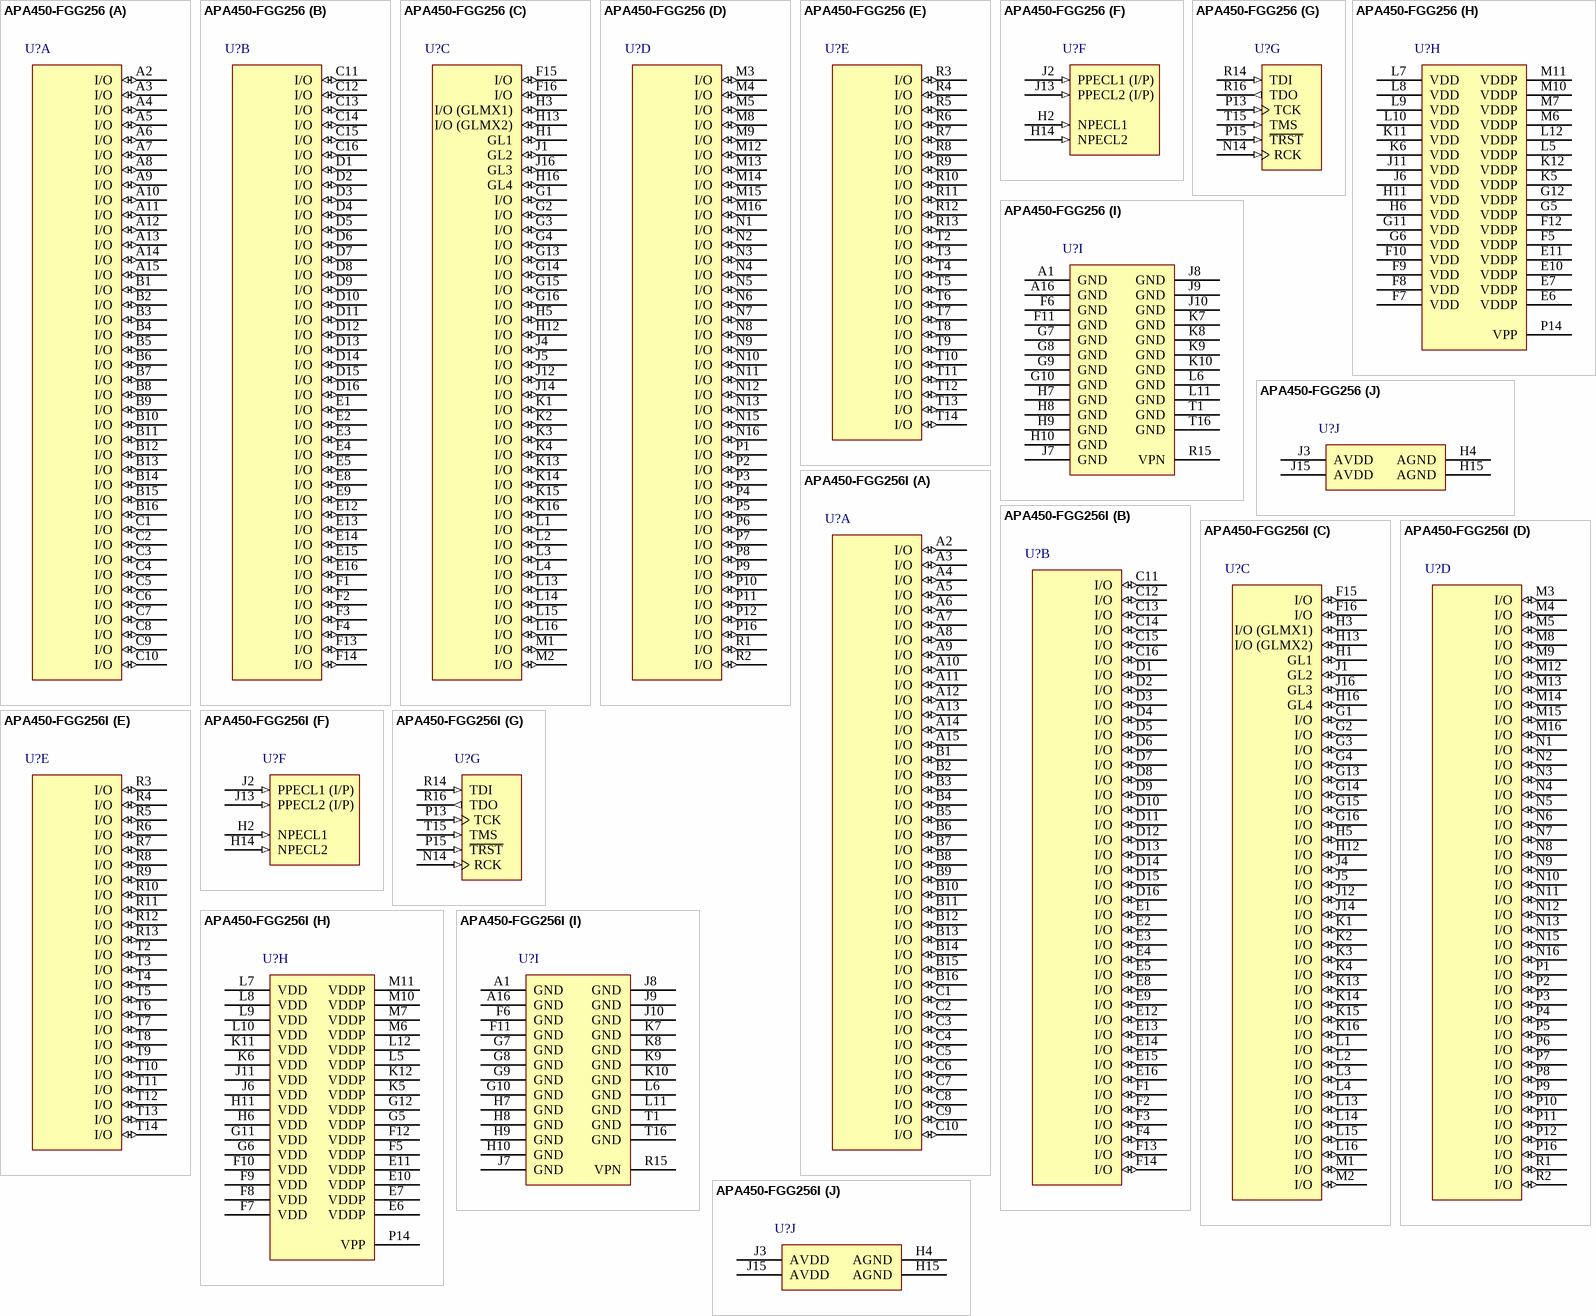
[diagram p58: symbols APA450-FGG256 to APA450-FGG256I]

## APA450-FGG256
designator U?
ProASICPlus APA450 Flash FPGA, 186 User IOs, 256-Pin FBGA, Speed Grade Standard, Commercial Grade, Pb-Free; Published: 16-Dec-2005; LatestRevisionDate: 13-Apr-2006; LatestRevisionNote: IPC-7351 Footprint Added.; DatasheetVersion: ver5.3, May-2006; PackageVersion: v9.4, Aug-2006; PackageReference: FG256; Publisher: Altium Limited; PackageDescription: 256-Ball Fine Pitch Plastic Ball Grid Array (FG256); Code_JEDEC: MS-034-AAF-1; ComponentLink1Description: Manufacturer Link; ComponentLink1URL: http://www.actel.com/products/proasicplus/index.html; ComponentLink2Description: Datasheet; ComponentLink2URL: http://www.actel.com/documents/ProASICPlus_DS.pdf
footprint FG256 (BGA, 256-Leads, Body 17x17mm, Pitch 1mm)
3D model APA450-FG256 (256-Ball Fine Pitch Plastic Ball Grid Array (FG256))
part A pins: A2 I/O (io), A3 I/O (io), A4 I/O (io), A5 I/O (io), A6 I/O (io), A7 I/O (io), A8 I/O (io), A9 I/O (io), A10 I/O (io), A11 I/O (io), A12 I/O (io), A13 I/O (io), A14 I/O (io), A15 I/O (io), B1 I/O (io), B2 I/O (io), B3 I/O (io), B4 I/O (io), B5 I/O (io), B6 I/O (io), B7 I/O (io), B8 I/O (io), B9 I/O (io), B10 I/O (io), B11 I/O (io), B12 I/O (io), B13 I/O (io), B14 I/O (io), B15 I/O (io), B16 I/O (io), C1 I/O (io), C2 I/O (io), C3 I/O (io), C4 I/O (io), C5 I/O (io), C6 I/O (io), C7 I/O (io), C8 I/O (io), C9 I/O (io), C10 I/O (io)
part B pins: C11 I/O (io), C12 I/O (io), C13 I/O (io), C14 I/O (io), C15 I/O (io), C16 I/O (io), D1 I/O (io), D2 I/O (io), D3 I/O (io), D4 I/O (io), D5 I/O (io), D6 I/O (io), D7 I/O (io), D8 I/O (io), D9 I/O (io), D10 I/O (io), D11 I/O (io), D12 I/O (io), D13 I/O (io), D14 I/O (io), D15 I/O (io), D16 I/O (io), E1 I/O (io), E2 I/O (io), E3 I/O (io), E4 I/O (io), E5 I/O (io), E8 I/O (io), E9 I/O (io), E12 I/O (io), E13 I/O (io), E14 I/O (io), E15 I/O (io), E16 I/O (io), F1 I/O (io), F2 I/O (io), F3 I/O (io), F4 I/O (io), F13 I/O (io), F14 I/O (io)
part C pins: F15 I/O (io), F16 I/O (io), G1 I/O (io), G2 I/O (io), G3 I/O (io), G4 I/O (io), G13 I/O (io), G14 I/O (io), G15 I/O (io), G16 I/O (io), H1 GL1 (io), H3 I/O (GLMX1) (io), H5 I/O (io), H12 I/O (io), H13 I/O (GLMX2) (io), H16 GL4 (io), J1 GL2 (io), J4 I/O (io), J5 I/O (io), J12 I/O (io), J14 I/O (io), J16 GL3 (io), K1 I/O (io), K2 I/O (io), K3 I/O (io), K4 I/O (io), K13 I/O (io), K14 I/O (io), K15 I/O (io), K16 I/O (io), L1 I/O (io), L2 I/O (io), L3 I/O (io), L4 I/O (io), L13 I/O (io), L14 I/O (io), L15 I/O (io), L16 I/O (io), M1 I/O (io), M2 I/O (io)
part D pins: M3 I/O (io), M4 I/O (io), M5 I/O (io), M8 I/O (io), M9 I/O (io), M12 I/O (io), M13 I/O (io), M14 I/O (io), M15 I/O (io), M16 I/O (io), N1 I/O (io), N2 I/O (io), N3 I/O (io), N4 I/O (io), N5 I/O (io), N6 I/O (io), N7 I/O (io), N8 I/O (io), N9 I/O (io), N10 I/O (io), N11 I/O (io), N12 I/O (io), N13 I/O (io), N15 I/O (io), N16 I/O (io), P1 I/O (io), P2 I/O (io), P3 I/O (io), P4 I/O (io), P5 I/O (io), P6 I/O (io), P7 I/O (io), P8 I/O (io), P9 I/O (io), P10 I/O (io), P11 I/O (io), P12 I/O (io), P16 I/O (io), R1 I/O (io), R2 I/O (io)
part E pins: R3 I/O (io), R4 I/O (io), R5 I/O (io), R6 I/O (io), R7 I/O (io), R8 I/O (io), R9 I/O (io), R10 I/O (io), R11 I/O (io), R12 I/O (io), R13 I/O (io), T2 I/O (io), T3 I/O (io), T4 I/O (io), T5 I/O (io), T6 I/O (io), T7 I/O (io), T8 I/O (io), T9 I/O (io), T10 I/O (io), T11 I/O (io), T12 I/O (io), T13 I/O (io), T14 I/O (io)
part F pins: H2 NPECL1 (in), H14 NPECL2 (in), J2 PPECL1 (I/P) (in), J13 PPECL2 (I/P) (in)
part G pins: N14 RCK (in), P13 TCK (in), P15 ~{TRST} (in), R14 TDI (in), R16 TDO (out), T15 TMS (in)
part H pins: E6 VDDP (power), E7 VDDP (power), E10 VDDP (power), E11 VDDP (power), F5 VDDP (power), F7 VDD (power), F8 VDD (power), F9 VDD (power), F10 VDD (power), F12 VDDP (power), G5 VDDP (power), G6 VDD (power), G11 VDD (power), G12 VDDP (power), H6 VDD (power), H11 VDD (power), J6 VDD (power), J11 VDD (power), K5 VDDP (power), K6 VDD (power), K11 VDD (power), K12 VDDP (power), L5 VDDP (power), L7 VDD (power), L8 VDD (power), L9 VDD (power), L10 VDD (power), L12 VDDP (power), M6 VDDP (power), M7 VDDP (power), M10 VDDP (power), M11 VDDP (power), P14 VPP (power)
part I pins: A1 GND (power), A16 GND (power), F6 GND (power), F11 GND (power), G7 GND (power), G8 GND (power), G9 GND (power), G10 GND (power), H7 GND (power), H8 GND (power), H9 GND (power), H10 GND (power), J7 GND (power), J8 GND (power), J9 GND (power), J10 GND (power), K7 GND (power), K8 GND (power), K9 GND (power), K10 GND (power), L6 GND (power), L11 GND (power), R15 VPN (power), T1 GND (power), T16 GND (power)
part J pins: H4 AGND (power), H15 AGND (power), J3 AVDD (power), J15 AVDD (power)

## APA450-FGG256I
designator U?
ProASICPlus APA450 Flash FPGA, 186 User IOs, 256-Pin FBGA, Speed Grade Standard, Industrial Grade, Pb-Free; Published: 16-Dec-2005; LatestRevisionDate: 13-Apr-2006; LatestRevisionNote: IPC-7351 Footprint Added.; DatasheetVersion: ver5.3, May-2006; PackageVersion: v9.4, Aug-2006; PackageReference: FG256; Publisher: Altium Limited; PackageDescription: 256-Ball Fine Pitch Plastic Ball Grid Array (FG256); Code_JEDEC: MS-034-AAF-1; ComponentLink1Description: Manufacturer Link; ComponentLink1URL: http://www.actel.com/products/proasicplus/index.html; ComponentLink2Description: Datasheet; ComponentLink2URL: http://www.actel.com/documents/ProASICPlus_DS.pdf
footprint FG256 (BGA, 256-Leads, Body 17x17mm, Pitch 1mm)
3D model APA450-FG256 (256-Ball Fine Pitch Plastic Ball Grid Array (FG256))
part A pins: A2 I/O (io), A3 I/O (io), A4 I/O (io), A5 I/O (io), A6 I/O (io), A7 I/O (io), A8 I/O (io), A9 I/O (io), A10 I/O (io), A11 I/O (io), A12 I/O (io), A13 I/O (io), A14 I/O (io), A15 I/O (io), B1 I/O (io), B2 I/O (io), B3 I/O (io), B4 I/O (io), B5 I/O (io), B6 I/O (io), B7 I/O (io), B8 I/O (io), B9 I/O (io), B10 I/O (io), B11 I/O (io), B12 I/O (io), B13 I/O (io), B14 I/O (io), B15 I/O (io), B16 I/O (io), C1 I/O (io), C2 I/O (io), C3 I/O (io), C4 I/O (io), C5 I/O (io), C6 I/O (io), C7 I/O (io), C8 I/O (io), C9 I/O (io), C10 I/O (io)
part B pins: C11 I/O (io), C12 I/O (io), C13 I/O (io), C14 I/O (io), C15 I/O (io), C16 I/O (io), D1 I/O (io), D2 I/O (io), D3 I/O (io), D4 I/O (io), D5 I/O (io), D6 I/O (io), D7 I/O (io), D8 I/O (io), D9 I/O (io), D10 I/O (io), D11 I/O (io), D12 I/O (io), D13 I/O (io), D14 I/O (io), D15 I/O (io), D16 I/O (io), E1 I/O (io), E2 I/O (io), E3 I/O (io), E4 I/O (io), E5 I/O (io), E8 I/O (io), E9 I/O (io), E12 I/O (io), E13 I/O (io), E14 I/O (io), E15 I/O (io), E16 I/O (io), F1 I/O (io), F2 I/O (io), F3 I/O (io), F4 I/O (io), F13 I/O (io), F14 I/O (io)
part C pins: F15 I/O (io), F16 I/O (io), G1 I/O (io), G2 I/O (io), G3 I/O (io), G4 I/O (io), G13 I/O (io), G14 I/O (io), G15 I/O (io), G16 I/O (io), H1 GL1 (io), H3 I/O (GLMX1) (io), H5 I/O (io), H12 I/O (io), H13 I/O (GLMX2) (io), H16 GL4 (io), J1 GL2 (io), J4 I/O (io), J5 I/O (io), J12 I/O (io), J14 I/O (io), J16 GL3 (io), K1 I/O (io), K2 I/O (io), K3 I/O (io), K4 I/O (io), K13 I/O (io), K14 I/O (io), K15 I/O (io), K16 I/O (io), L1 I/O (io), L2 I/O (io), L3 I/O (io), L4 I/O (io), L13 I/O (io), L14 I/O (io), L15 I/O (io), L16 I/O (io), M1 I/O (io), M2 I/O (io)
part D pins: M3 I/O (io), M4 I/O (io), M5 I/O (io), M8 I/O (io), M9 I/O (io), M12 I/O (io), M13 I/O (io), M14 I/O (io), M15 I/O (io), M16 I/O (io), N1 I/O (io), N2 I/O (io), N3 I/O (io), N4 I/O (io), N5 I/O (io), N6 I/O (io), N7 I/O (io), N8 I/O (io), N9 I/O (io), N10 I/O (io), N11 I/O (io), N12 I/O (io), N13 I/O (io), N15 I/O (io), N16 I/O (io), P1 I/O (io), P2 I/O (io), P3 I/O (io), P4 I/O (io), P5 I/O (io), P6 I/O (io), P7 I/O (io), P8 I/O (io), P9 I/O (io), P10 I/O (io), P11 I/O (io), P12 I/O (io), P16 I/O (io), R1 I/O (io), R2 I/O (io)
part E pins: R3 I/O (io), R4 I/O (io), R5 I/O (io), R6 I/O (io), R7 I/O (io), R8 I/O (io), R9 I/O (io), R10 I/O (io), R11 I/O (io), R12 I/O (io), R13 I/O (io), T2 I/O (io), T3 I/O (io), T4 I/O (io), T5 I/O (io), T6 I/O (io), T7 I/O (io), T8 I/O (io), T9 I/O (io), T10 I/O (io), T11 I/O (io), T12 I/O (io), T13 I/O (io), T14 I/O (io)
part F pins: H2 NPECL1 (in), H14 NPECL2 (in), J2 PPECL1 (I/P) (in), J13 PPECL2 (I/P) (in)
part G pins: N14 RCK (in), P13 TCK (in), P15 ~{TRST} (in), R14 TDI (in), R16 TDO (out), T15 TMS (in)
part H pins: E6 VDDP (power), E7 VDDP (power), E10 VDDP (power), E11 VDDP (power), F5 VDDP (power), F7 VDD (power), F8 VDD (power), F9 VDD (power), F10 VDD (power), F12 VDDP (power), G5 VDDP (power), G6 VDD (power), G11 VDD (power), G12 VDDP (power), H6 VDD (power), H11 VDD (power), J6 VDD (power), J11 VDD (power), K5 VDDP (power), K6 VDD (power), K11 VDD (power), K12 VDDP (power), L5 VDDP (power), L7 VDD (power), L8 VDD (power), L9 VDD (power), L10 VDD (power), L12 VDDP (power), M6 VDDP (power), M7 VDDP (power), M10 VDDP (power), M11 VDDP (power), P14 VPP (power)
part I pins: A1 GND (power), A16 GND (power), F6 GND (power), F11 GND (power), G7 GND (power), G8 GND (power), G9 GND (power), G10 GND (power), H7 GND (power), H8 GND (power), H9 GND (power), H10 GND (power), J7 GND (power), J8 GND (power), J9 GND (power), J10 GND (power), K7 GND (power), K8 GND (power), K9 GND (power), K10 GND (power), L6 GND (power), L11 GND (power), R15 VPN (power), T1 GND (power), T16 GND (power)
part J pins: H4 AGND (power), H15 AGND (power), J3 AVDD (power), J15 AVDD (power)

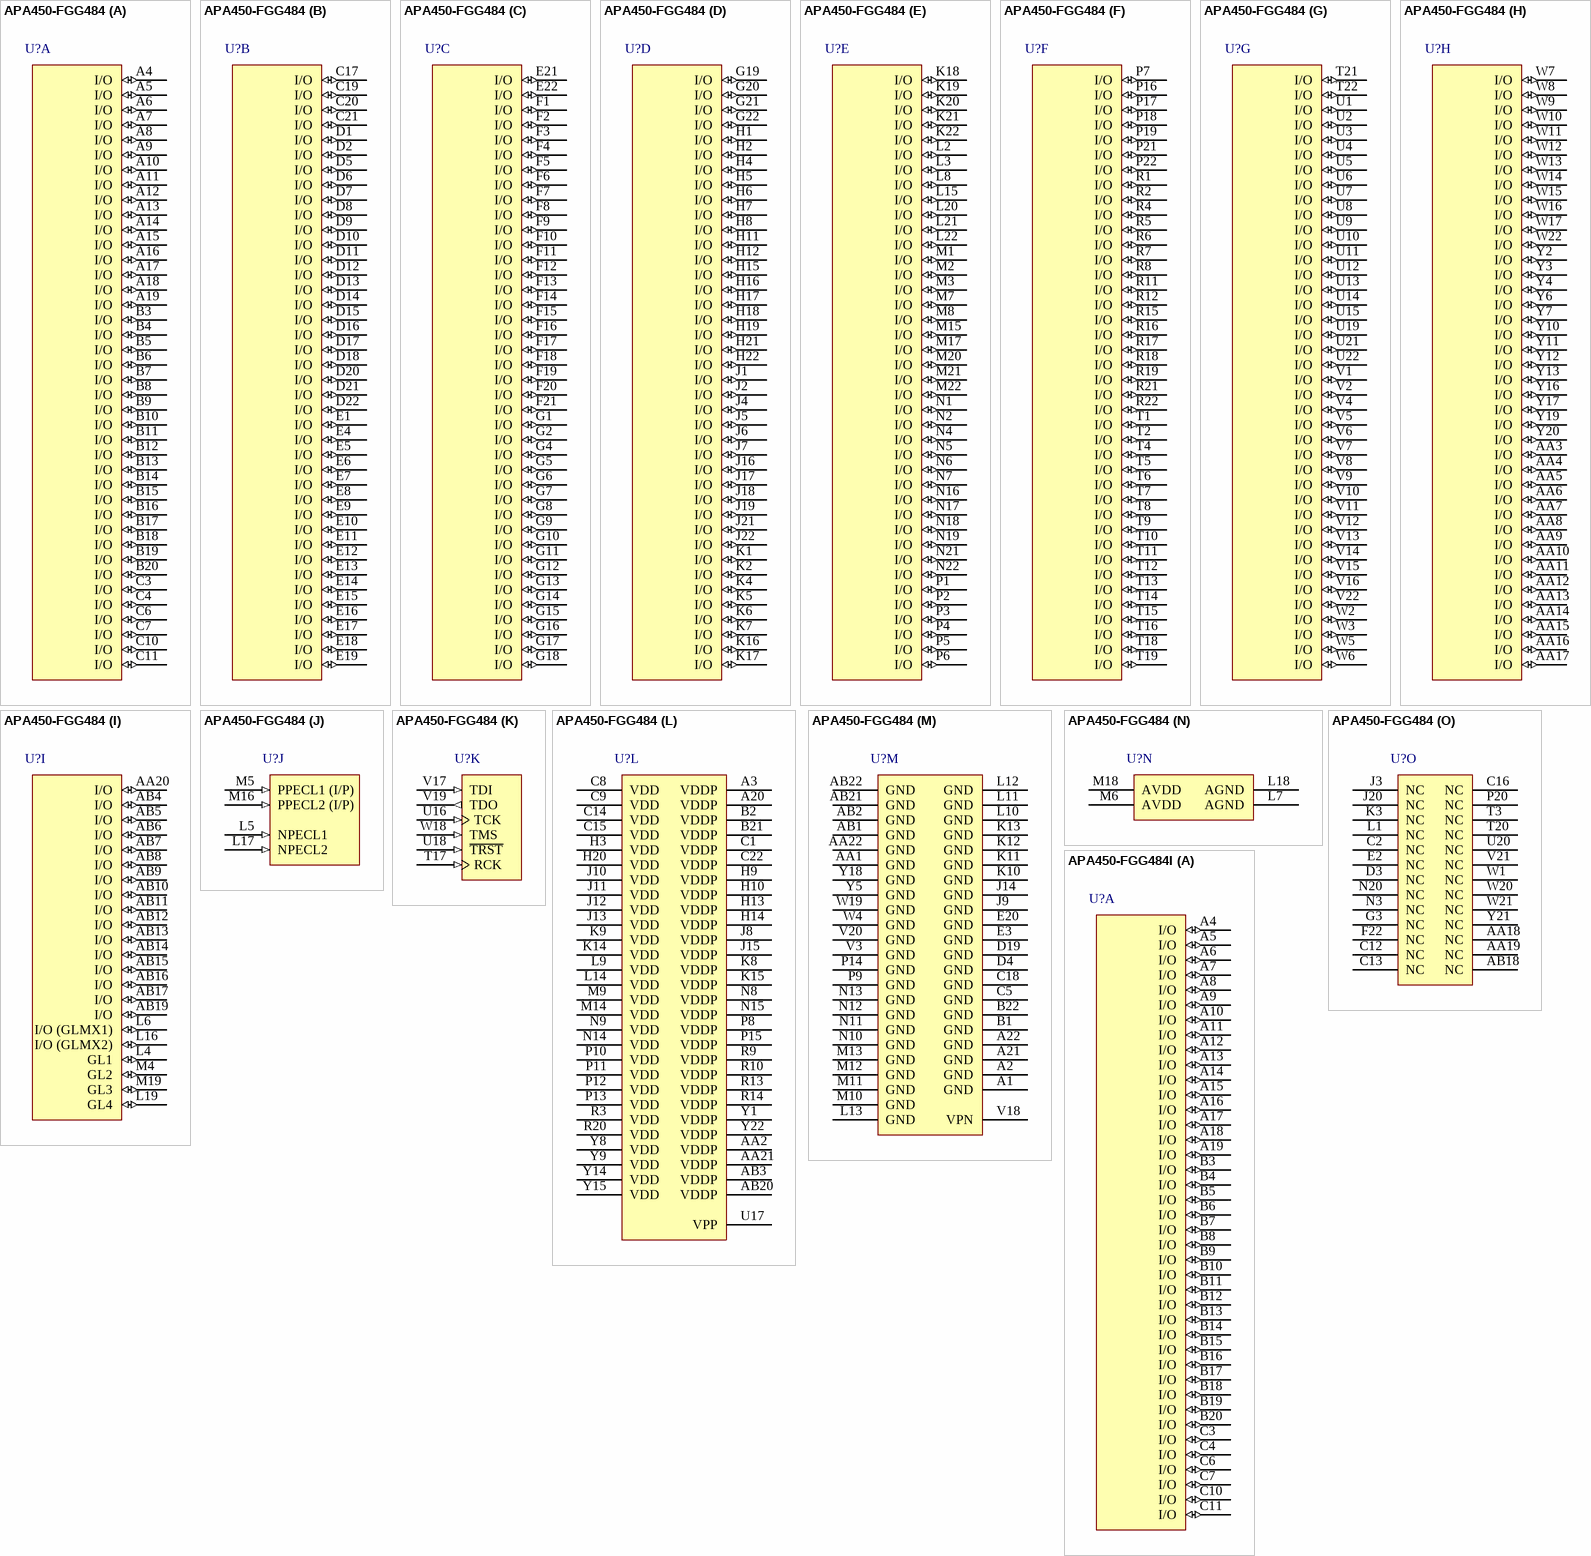
[diagram p59: symbols APA450-FGG484 to APA450-FGG484I]

## APA450-FGG484
designator U?
ProASICPlus APA450 Flash FPGA, 344 User IOs, 484-Pin FBGA, Speed Grade Standard, Commercial Grade, Pb-Free; Published: 16-Dec-2005; LatestRevisionDate: 13-Apr-2006; LatestRevisionNote: IPC-7351 Footprint Added.; DatasheetVersion: ver5.3, May-2006; PackageVersion: v9.4, Aug-2006; PackageReference: FG484; Publisher: Altium Limited; PackageDescription: 484-Ball Fine Pitch Plastic Ball Grid Array (FG484) - Fully Populated; Code_JEDEC: MS-034-AAJ-1; Code_IPC: BGA100P22X22-484; ComponentLink1Description: Manufacturer Link; ComponentLink1URL: http://www.actel.com/products/proasicplus/index.html; ComponentLink2Description: Datasheet; ComponentLink2URL: http://www.actel.com/documents/ProASICPlus_DS.pdf
footprint FG484 (BGA, 484-Leads, Body 23x23mm, Pitch 1mm)
3D model APA450-FG484 (484-Ball Fine Pitch Plastic Ball Grid Array (FG484) - Fully Populated)
part A pins: A4 I/O (io), A5 I/O (io), A6 I/O (io), A7 I/O (io), A8 I/O (io), A9 I/O (io), A10 I/O (io), A11 I/O (io), A12 I/O (io), A13 I/O (io), A14 I/O (io), A15 I/O (io), A16 I/O (io), A17 I/O (io), A18 I/O (io), A19 I/O (io), B3 I/O (io), B4 I/O (io), B5 I/O (io), B6 I/O (io), B7 I/O (io), B8 I/O (io), B9 I/O (io), B10 I/O (io), B11 I/O (io), B12 I/O (io), B13 I/O (io), B14 I/O (io), B15 I/O (io), B16 I/O (io), B17 I/O (io), B18 I/O (io), B19 I/O (io), B20 I/O (io), C3 I/O (io), C4 I/O (io), C6 I/O (io), C7 I/O (io), C10 I/O (io), C11 I/O (io)
part B pins: C17 I/O (io), C19 I/O (io), C20 I/O (io), C21 I/O (io), D1 I/O (io), D2 I/O (io), D5 I/O (io), D6 I/O (io), D7 I/O (io), D8 I/O (io), D9 I/O (io), D10 I/O (io), D11 I/O (io), D12 I/O (io), D13 I/O (io), D14 I/O (io), D15 I/O (io), D16 I/O (io), D17 I/O (io), D18 I/O (io), D20 I/O (io), D21 I/O (io), D22 I/O (io), E1 I/O (io), E4 I/O (io), E5 I/O (io), E6 I/O (io), E7 I/O (io), E8 I/O (io), E9 I/O (io), E10 I/O (io), E11 I/O (io), E12 I/O (io), E13 I/O (io), E14 I/O (io), E15 I/O (io), E16 I/O (io), E17 I/O (io), E18 I/O (io), E19 I/O (io)
part C pins: E21 I/O (io), E22 I/O (io), F1 I/O (io), F2 I/O (io), F3 I/O (io), F4 I/O (io), F5 I/O (io), F6 I/O (io), F7 I/O (io), F8 I/O (io), F9 I/O (io), F10 I/O (io), F11 I/O (io), F12 I/O (io), F13 I/O (io), F14 I/O (io), F15 I/O (io), F16 I/O (io), F17 I/O (io), F18 I/O (io), F19 I/O (io), F20 I/O (io), F21 I/O (io), G1 I/O (io), G2 I/O (io), G4 I/O (io), G5 I/O (io), G6 I/O (io), G7 I/O (io), G8 I/O (io), G9 I/O (io), G10 I/O (io), G11 I/O (io), G12 I/O (io), G13 I/O (io), G14 I/O (io), G15 I/O (io), G16 I/O (io), G17 I/O (io), G18 I/O (io)
part D pins: G19 I/O (io), G20 I/O (io), G21 I/O (io), G22 I/O (io), H1 I/O (io), H2 I/O (io), H4 I/O (io), H5 I/O (io), H6 I/O (io), H7 I/O (io), H8 I/O (io), H11 I/O (io), H12 I/O (io), H15 I/O (io), H16 I/O (io), H17 I/O (io), H18 I/O (io), H19 I/O (io), H21 I/O (io), H22 I/O (io), J1 I/O (io), J2 I/O (io), J4 I/O (io), J5 I/O (io), J6 I/O (io), J7 I/O (io), J16 I/O (io), J17 I/O (io), J18 I/O (io), J19 I/O (io), J21 I/O (io), J22 I/O (io), K1 I/O (io), K2 I/O (io), K4 I/O (io), K5 I/O (io), K6 I/O (io), K7 I/O (io), K16 I/O (io), K17 I/O (io)
part E pins: K18 I/O (io), K19 I/O (io), K20 I/O (io), K21 I/O (io), K22 I/O (io), L2 I/O (io), L3 I/O (io), L8 I/O (io), L15 I/O (io), L20 I/O (io), L21 I/O (io), L22 I/O (io), M1 I/O (io), M2 I/O (io), M3 I/O (io), M7 I/O (io), M8 I/O (io), M15 I/O (io), M17 I/O (io), M20 I/O (io), M21 I/O (io), M22 I/O (io), N1 I/O (io), N2 I/O (io), N4 I/O (io), N5 I/O (io), N6 I/O (io), N7 I/O (io), N16 I/O (io), N17 I/O (io), N18 I/O (io), N19 I/O (io), N21 I/O (io), N22 I/O (io), P1 I/O (io), P2 I/O (io), P3 I/O (io), P4 I/O (io), P5 I/O (io), P6 I/O (io)
part F pins: P7 I/O (io), P16 I/O (io), P17 I/O (io), P18 I/O (io), P19 I/O (io), P21 I/O (io), P22 I/O (io), R1 I/O (io), R2 I/O (io), R4 I/O (io), R5 I/O (io), R6 I/O (io), R7 I/O (io), R8 I/O (io), R11 I/O (io), R12 I/O (io), R15 I/O (io), R16 I/O (io), R17 I/O (io), R18 I/O (io), R19 I/O (io), R21 I/O (io), R22 I/O (io), T1 I/O (io), T2 I/O (io), T4 I/O (io), T5 I/O (io), T6 I/O (io), T7 I/O (io), T8 I/O (io), T9 I/O (io), T10 I/O (io), T11 I/O (io), T12 I/O (io), T13 I/O (io), T14 I/O (io), T15 I/O (io), T16 I/O (io), T18 I/O (io), T19 I/O (io)
part G pins: T21 I/O (io), T22 I/O (io), U1 I/O (io), U2 I/O (io), U3 I/O (io), U4 I/O (io), U5 I/O (io), U6 I/O (io), U7 I/O (io), U8 I/O (io), U9 I/O (io), U10 I/O (io), U11 I/O (io), U12 I/O (io), U13 I/O (io), U14 I/O (io), U15 I/O (io), U19 I/O (io), U21 I/O (io), U22 I/O (io), V1 I/O (io), V2 I/O (io), V4 I/O (io), V5 I/O (io), V6 I/O (io), V7 I/O (io), V8 I/O (io), V9 I/O (io), V10 I/O (io), V11 I/O (io), V12 I/O (io), V13 I/O (io), V14 I/O (io), V15 I/O (io), V16 I/O (io), V22 I/O (io), W2 I/O (io), W3 I/O (io), W5 I/O (io), W6 I/O (io)
part H pins: AA3 I/O (io), AA4 I/O (io), AA5 I/O (io), AA6 I/O (io), AA7 I/O (io), AA8 I/O (io), AA9 I/O (io), AA10 I/O (io), AA11 I/O (io), AA12 I/O (io), AA13 I/O (io), AA14 I/O (io), AA15 I/O (io), AA16 I/O (io), AA17 I/O (io), W7 I/O (io), W8 I/O (io), W9 I/O (io), W10 I/O (io), W11 I/O (io), W12 I/O (io), W13 I/O (io), W14 I/O (io), W15 I/O (io), W16 I/O (io), W17 I/O (io), W22 I/O (io), Y2 I/O (io), Y3 I/O (io), Y4 I/O (io), Y6 I/O (io), Y7 I/O (io), Y10 I/O (io), Y11 I/O (io), Y12 I/O (io), Y13 I/O (io), Y16 I/O (io), Y17 I/O (io), Y19 I/O (io), Y20 I/O (io)
part I pins: AA20 I/O (io), AB4 I/O (io), AB5 I/O (io), AB6 I/O (io), AB7 I/O (io), AB8 I/O (io), AB9 I/O (io), AB10 I/O (io), AB11 I/O (io), AB12 I/O (io), AB13 I/O (io), AB14 I/O (io), AB15 I/O (io), AB16 I/O (io), AB17 I/O (io), AB19 I/O (io), L4 GL1 (io), L6 I/O (GLMX1) (io), L16 I/O (GLMX2) (io), L19 GL4 (io), M4 GL2 (io), M19 GL3 (io)
part J pins: L5 NPECL1 (in), L17 NPECL2 (in), M5 PPECL1 (I/P) (in), M16 PPECL2 (I/P) (in)
part K pins: T17 RCK (in), U16 TCK (in), U18 ~{TRST} (in), V17 TDI (in), V19 TDO (out), W18 TMS (in)
part L pins: A3 VDDP (power), A20 VDDP (power), AA2 VDDP (power), AA21 VDDP (power), AB3 VDDP (power), AB20 VDDP (power), B2 VDDP (power), B21 VDDP (power), C1 VDDP (power), C8 VDD (power), C9 VDD (power), C14 VDD (power), C15 VDD (power), C22 VDDP (power), H3 VDD (power), H9 VDDP (power), H10 VDDP (power), H13 VDDP (power), H14 VDDP (power), H20 VDD (power), J8 VDDP (power), J10 VDD (power), J11 VDD (power), J12 VDD (power), J13 VDD (power), J15 VDDP (power), K8 VDDP (power), K9 VDD (power), K14 VDD (power), K15 VDDP (power), L9 VDD (power), L14 VDD (power), M9 VDD (power), M14 VDD (power), N8 VDDP (power), N9 VDD (power), N14 VDD (power), N15 VDDP (power), P8 VDDP (power), P10 VDD (power), P11 VDD (power), P12 VDD (power), P13 VDD (power), P15 VDDP (power), R3 VDD (power), R9 VDDP (power), R10 VDDP (power), R13 VDDP (power), R14 VDDP (power), R20 VDD (power), U17 VPP (power), Y1 VDDP (power), Y8 VDD (power), Y9 VDD (power), Y14 VDD (power), Y15 VDD (power), Y22 VDDP (power)
part M pins: A1 GND (power), A2 GND (power), A21 GND (power), A22 GND (power), AA1 GND (power), AA22 GND (power), AB1 GND (power), AB2 GND (power), AB21 GND (power), AB22 GND (power), B1 GND (power), B22 GND (power), C5 GND (power), C18 GND (power), D4 GND (power), D19 GND (power), E3 GND (power), E20 GND (power), J9 GND (power), J14 GND (power), K10 GND (power), K11 GND (power), K12 GND (power), K13 GND (power), L10 GND (power), L11 GND (power), L12 GND (power), L13 GND (power), M10 GND (power), M11 GND (power), M12 GND (power), M13 GND (power), N10 GND (power), N11 GND (power), N12 GND (power), N13 GND (power), P9 GND (power), P14 GND (power), V3 GND (power), V18 VPN (power), V20 GND (power), W4 GND (power), W19 GND (power), Y5 GND (power), Y18 GND (power)
part N pins: L7 AGND (power), L18 AGND (power), M6 AVDD (power), M18 AVDD (power)
part O pins: AA18 NC, AA19 NC, AB18 NC, C2 NC, C12 NC, C13 NC, C16 NC, D3 NC, E2 NC, F22 NC, G3 NC, J3 NC, J20 NC, K3 NC, L1 NC, N3 NC, N20 NC, P20 NC, T3 NC, T20 NC, U20 NC, V21 NC, W1 NC, W20 NC, W21 NC, Y21 NC

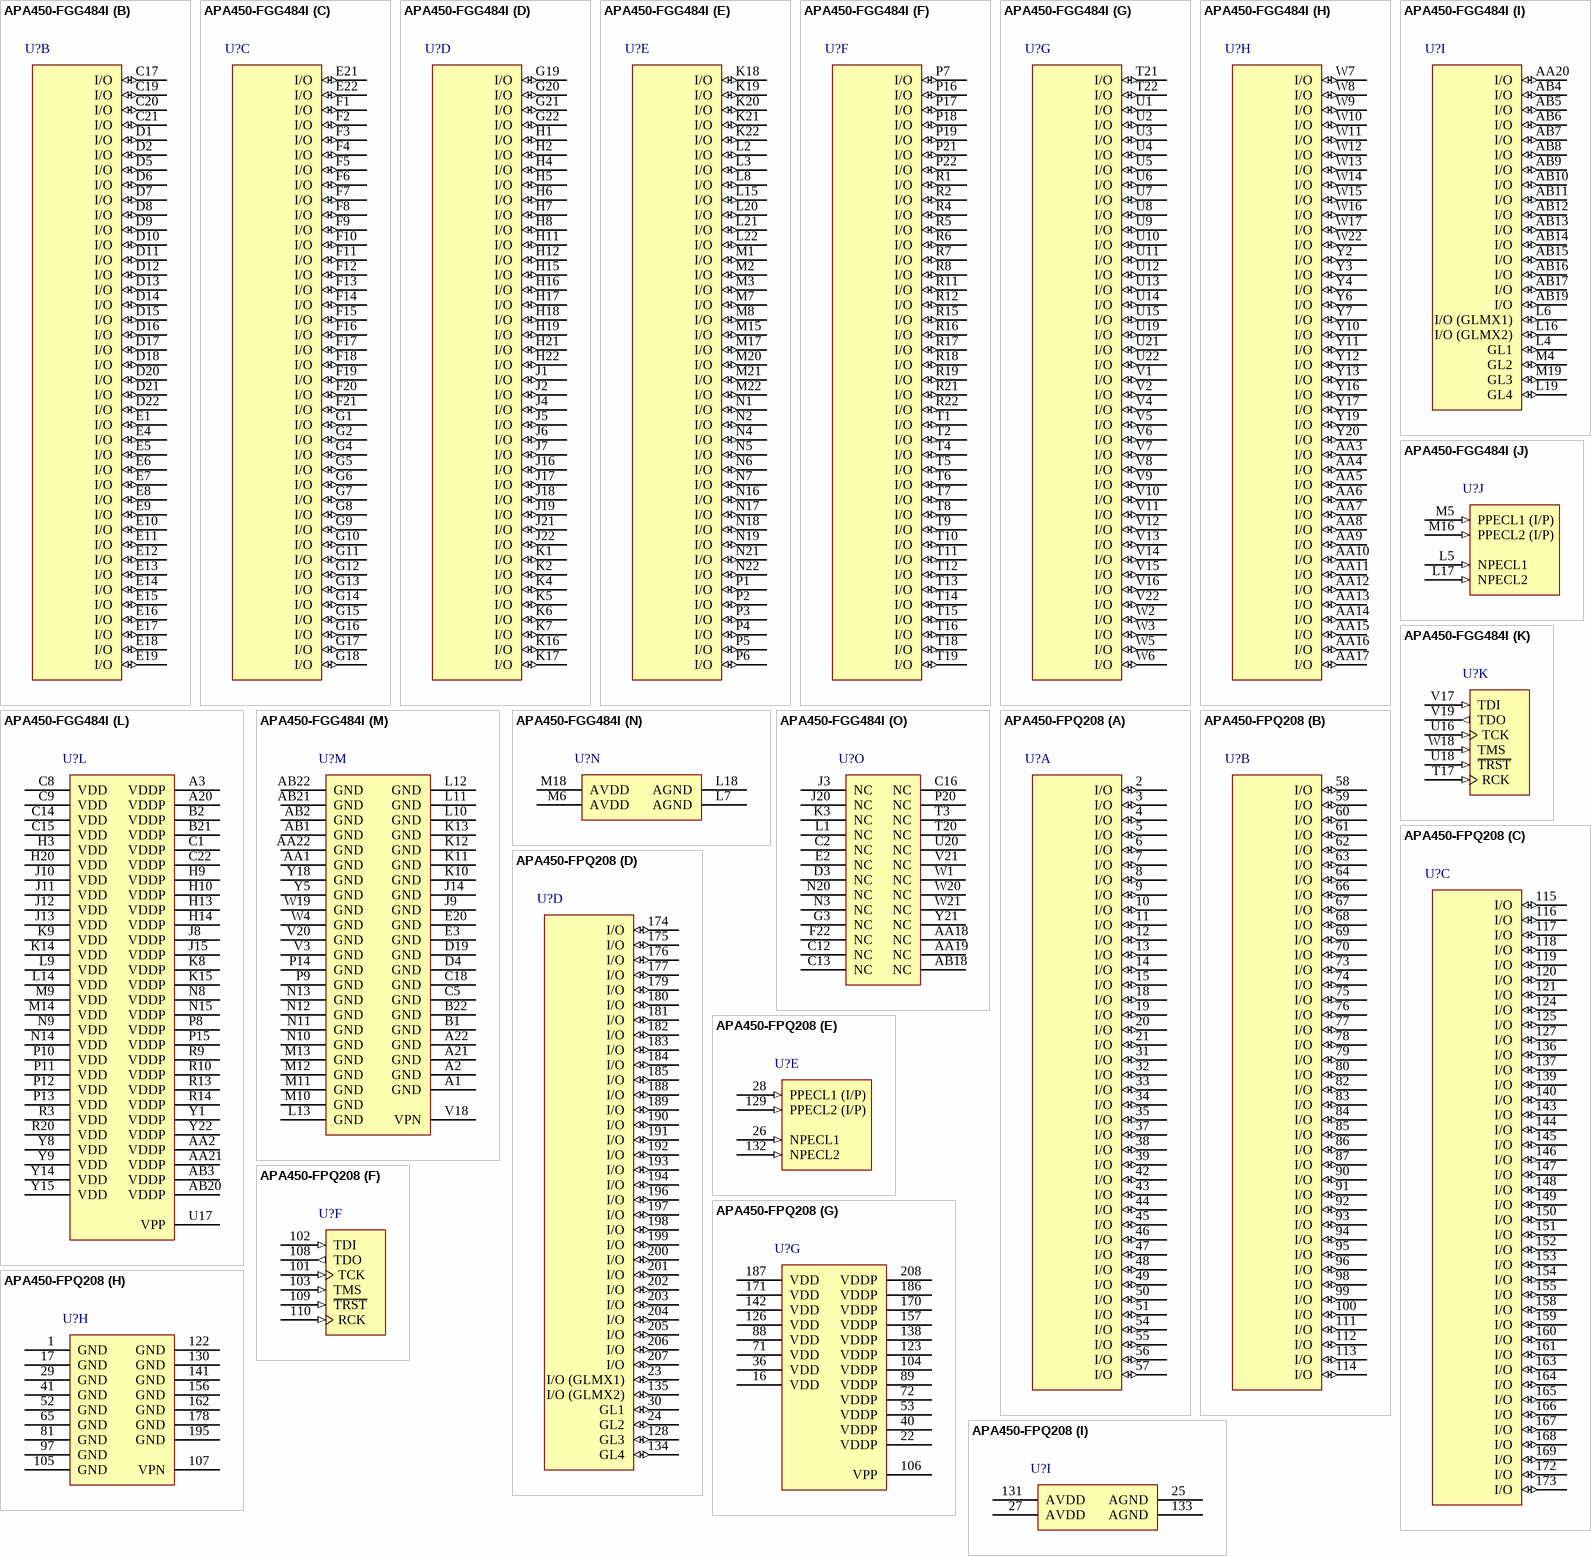
[diagram p60: symbols APA450-FGG484I to APA450-FPQ208]